# Altium schematic symbol library TNY.SchLib: 223 symbols (part 1 of 2)
Pins are listed as number, name and electrical type; pins without a type are passive.

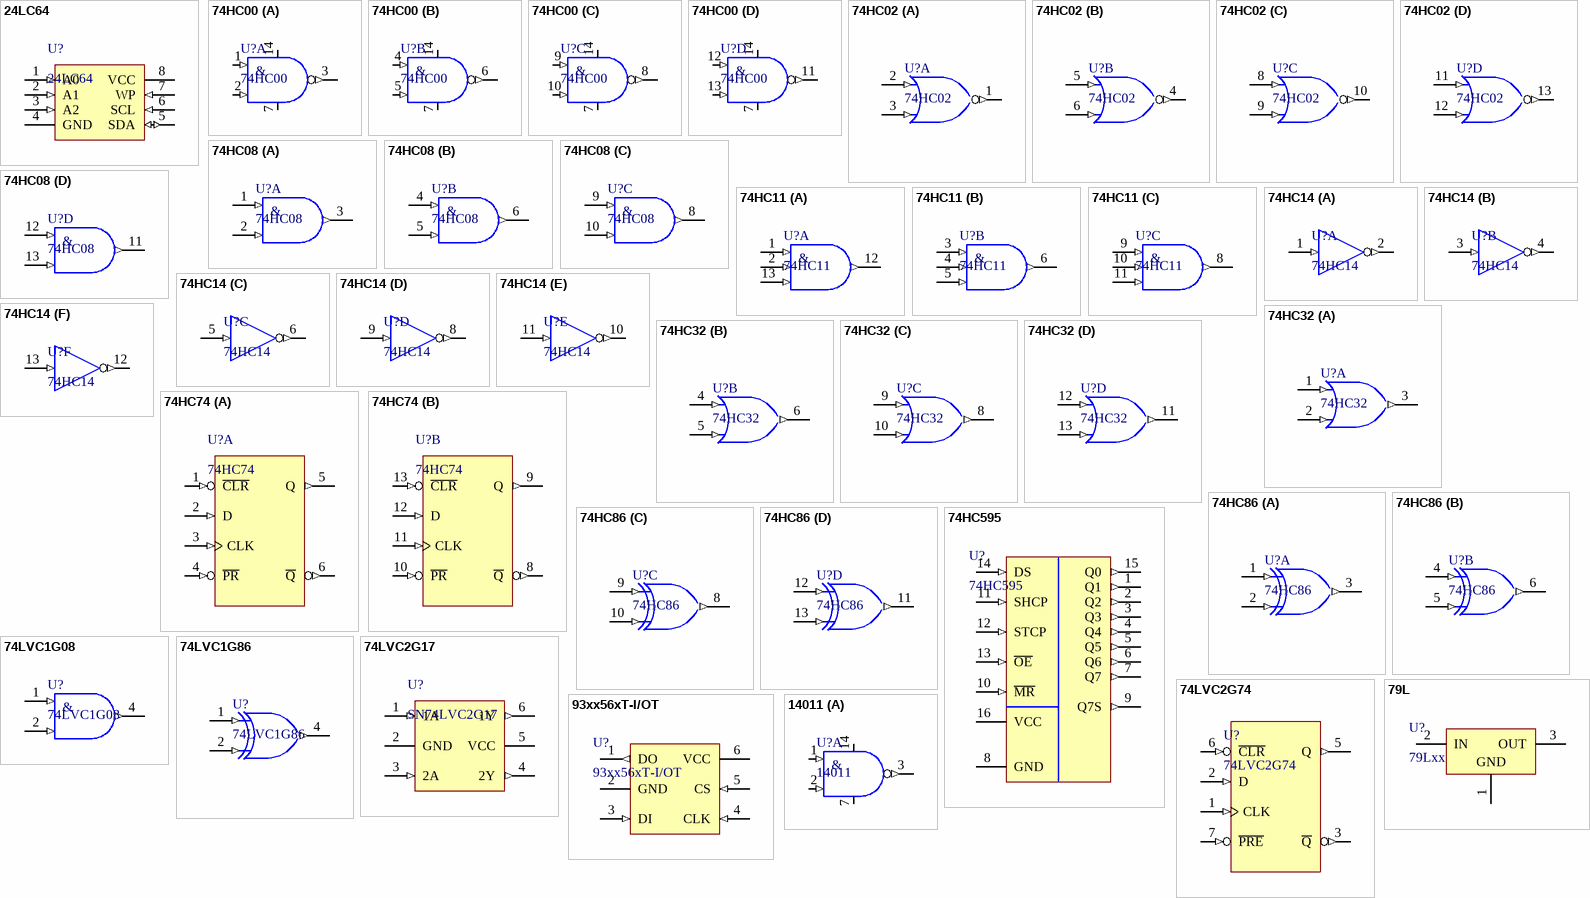
[diagram p0: symbols 24LC64 to 14011]

## 24LC64
designator U?
footprint SOIC127P600-8
pins: 1 A0 (in), 2 A1 (in), 3 A2 (in), 4 GND (power), 5 SDA (io), 6 SCL (in), 7 WP (in), 8 VCC (power)

## 74HC00
designator U?
footprint SOIC127P600-14
pins on every part: 7 GND (power), 14 +5V (power)
part A pins: 1 A (in), 2 B (in), 3 Y (out)
part B pins: 4 A (in), 5 B (in), 6 Y (out)
part C pins: 8 Y (out), 9 A (in), 10 B (in)
part D pins: 11 Y (out), 12 A (in), 13 B (in)
part A text: &
part B text: &
part C text: &
part D text: &

## 74HC02
designator U?
footprint SOIC127P600-14
pins on every part: 7 GND (power) hidden to GND, 14 VCC (power) hidden to Vcc
part A pins: 1 Y (out), 2 A (in), 3 B (in)
part B pins: 4 Y (out), 5 A (in), 6 B (in)
part C pins: 8 A (in), 9 B (in), 10 Y (out)
part D pins: 11 A (in), 12 B (in), 13 Y (out)

## 74HC08
designator U?
footprint SOIC127P600-14
pins on every part: 7 GND (power) hidden to GND, 14 VCC (power) hidden to Vcc
part A pins: 1 A (in), 2 B (in), 3 Y (out)
part B pins: 4 A (in), 5 B (in), 6 Y (out)
part C pins: 8 Y (out), 9 A (in), 10 B (in)
part D pins: 11 Y (out), 12 A (in), 13 B (in)
part A text: &
part B text: &
part C text: &
part D text: &

## 74HC11
designator U?
footprint SOIC127P600-14
pins on every part: 7 GND (power) hidden to GND, 14 VCC (power) hidden to Vcc
part A pins: 1 A (in), 2 B (in), 12 Y (out), 13 C (in)
part B pins: 3 A (in), 4 B (in), 5 C (in), 6 Y (out)
part C pins: 8 Y (out), 9 A (in), 10 B (in), 11 C (in)
part A text: &
part B text: &
part C text: &

## 74HC14
designator U?
footprint SOIC127P600-14
pins on every part: 7 GND (power) hidden to GND, 14 VCC (power) hidden to Vcc
part A pins: 1 A (in), 2 Y (out)
part B pins: 3 A (in), 4 Y (out)
part C pins: 5 A (in), 6 Y (out)
part D pins: 8 Y (out), 9 A (in)
part E pins: 10 Y (out), 11 A (in)
part F pins: 12 Y (out), 13 A (in)

## 74HC32
designator U?
footprint SOIC127P600-14
pins on every part: 7 GND (power) hidden to GND, 14 VCC (power) hidden to Vcc
part A pins: 1 A (in), 2 B (in), 3 Y (out)
part B pins: 4 A (in), 5 B (in), 6 Y (out)
part C pins: 8 Y (out), 9 A (in), 10 B (in)
part D pins: 11 Y (out), 12 A (in), 13 B (in)

## 74HC74
designator U?
footprint SOIC127P600-14
pins on every part: 7 GND (power) hidden to GND, 14 VCC (power) hidden to Vcc
part A pins: 1 ~{CLR} (in), 2 D (in), 3 CLK (in), 4 ~{PR} (in), 5 Q (out), 6 ~{Q} (out)
part B pins: 8 ~{Q} (out), 9 Q (out), 10 ~{PR} (in), 11 CLK (in), 12 D (in), 13 ~{CLR} (in)

## 74HC86
designator U?
footprint SOIC127P600-14
pins on every part: 7 GND (power) hidden to GND, 14 VCC (power) hidden to Vcc
part A pins: 1 A (in), 2 B (in), 3 Y (out)
part B pins: 4 A (in), 5 B (in), 6 Y (out)
part C pins: 8 Y (out), 9 A (in), 10 B (in)
part D pins: 11 Y (out), 12 A (in), 13 B (in)

## 74HC595
designator U?
8-bit serial-in, serial or parallel-out shift register with output; Manufacturer: *; Manufacturer Part Number: *; Package: *
footprint SOIC127P602-16_
footprint TSSOP16 (Shrink Small Outline, Plastic, Thin; 16 Leads; Body Width 4.4 mm; Pitch 0.65 mm)
pins: 1 Q1 (out), 2 Q2 (out), 3 Q3 (out), 4 Q4 (out), 5 Q5 (out), 6 Q6 (out), 7 Q7 (out), 8 GND (power), 9 Q7S (out), 10 ~{MR} (in), 11 SHCP (in), 12 STCP (in), 13 ~{OE} (in), 14 DS (in), 15 Q0 (out), 16 VCC (power)

## 74LVC1G08
designator U?
footprint SOT23-5_
pins: 1 A (in), 2 B (in), 3 GND (power) hidden to GND, 4 Y (out), 5 VCC (power) hidden to Vcc
text: &

## 74LVC1G86
designator U?
footprint SOT23-5_
pins: 1 A (in), 2 B (in), 3 GND (power) hidden to GND, 4 Y (out), 5 Vcc (power) hidden to Vcc

## 74LVC2G17
designator U?, comment SN74LVC2G17
footprint SOT23-6_
pins: 1 1A (in), 2 GND (power), 3 2A (in), 4 2Y (out), 5 VCC (power), 6 1Y (out)

## 74LVC2G74
designator U?
SINGLEPOSITIVE-EDGE-TRIGGEREDD-TYPEFLIP-FLOP
footprint SOIC127P600-8
pins: 1 CLK (in), 2 D (in), 3 ~{Q} (out), 4 GND (power) hidden to GND, 5 Q (out), 6 ~{CLR} (in), 7 ~{PRE} (in), 8 VCC (power) hidden to Vcc

## 79L
designator U?, comment 79Lxx
footprint TO-92_1
footprint TO-92_2
pins: 1 GND (power), 2 IN (power), 3 OUT (power)

## 93xx56xT-I/OT
designator U?
2K Microwire Compatible Serial EEPROM
footprint SOT23-6_
pins: 1 DO (out), 2 GND (power), 3 DI (in), 4 CLK (in), 5 CS (in), 6 VCC (power)

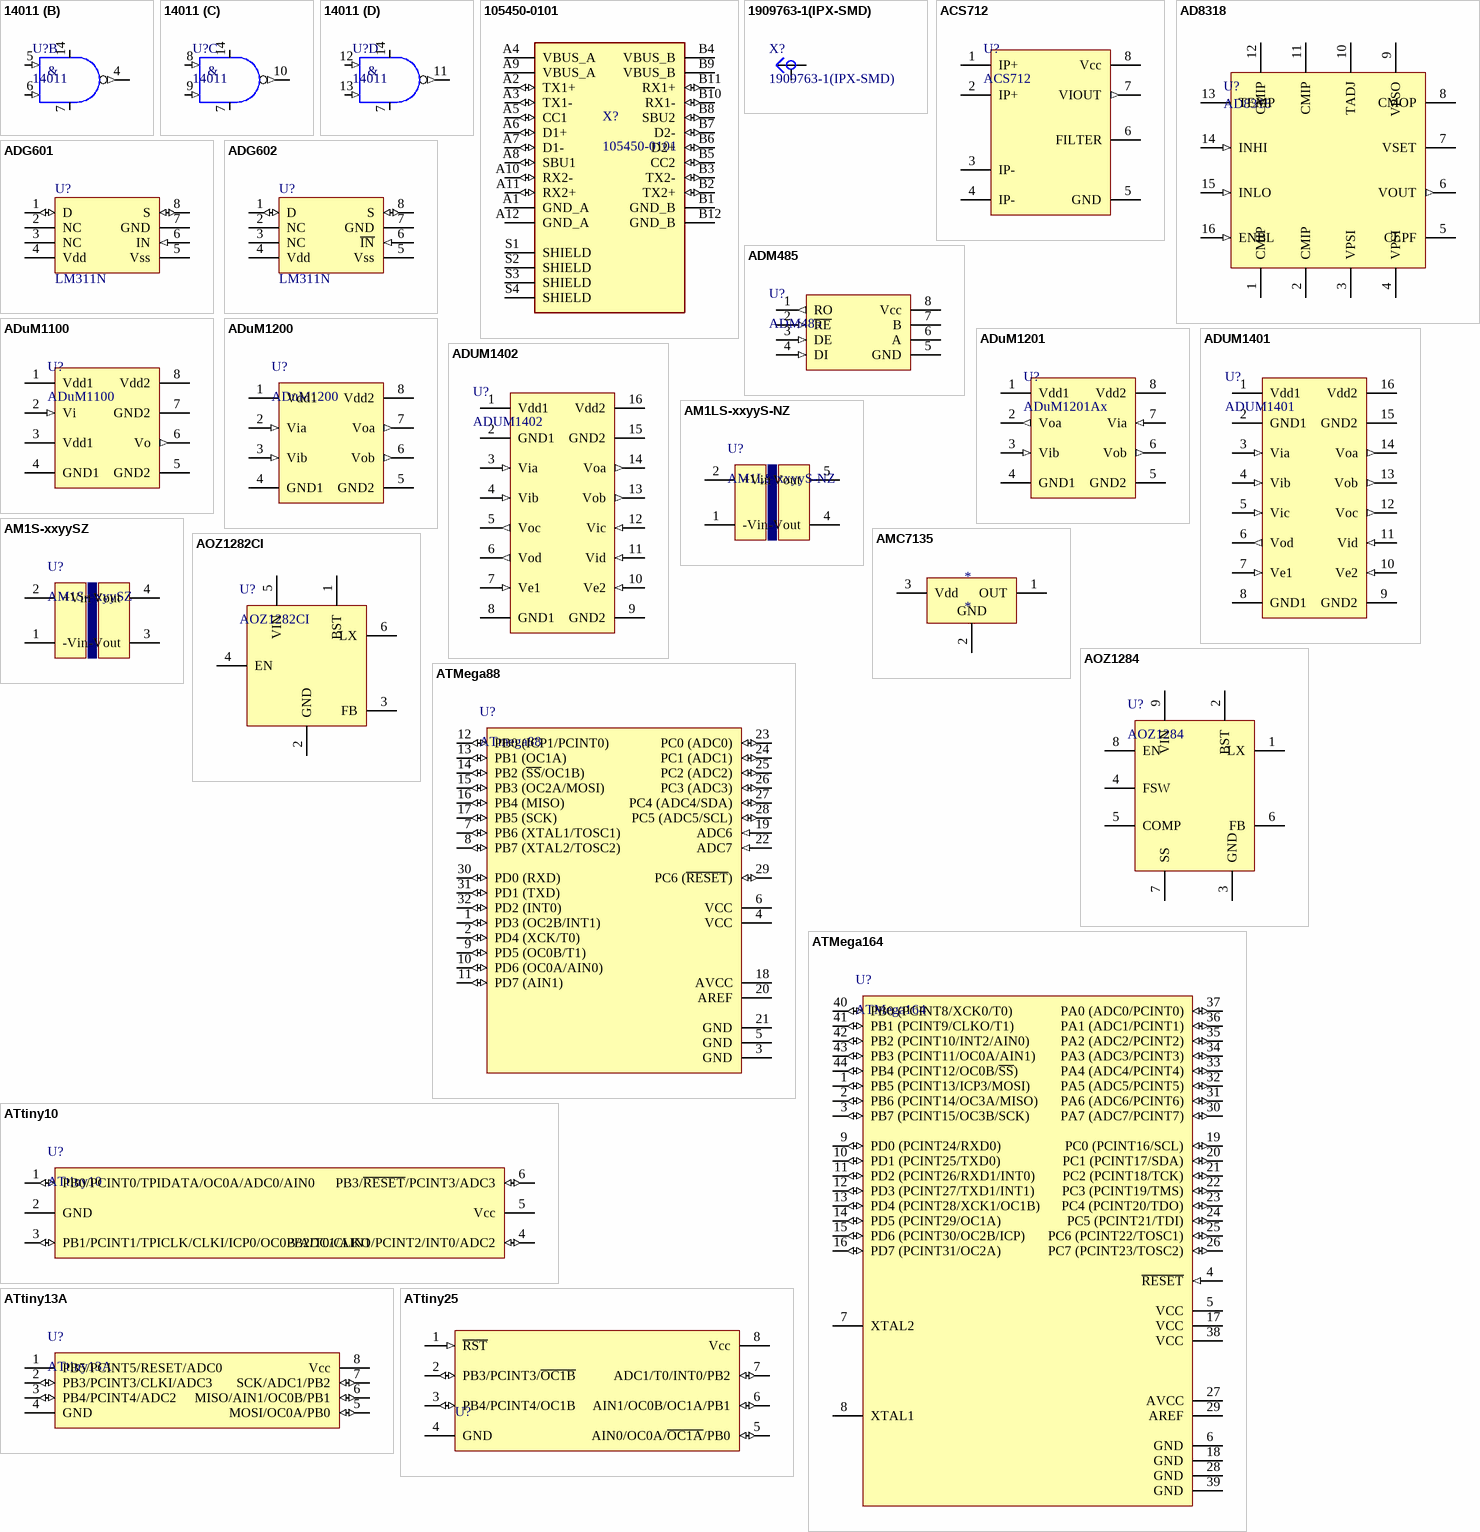
[diagram p1: symbols 14011 to ATtiny25]

## 14011
designator U?
footprint SOIC127P600-14
pins on every part: 7 GND (power), 14 +5V (power)
part A pins: 1 A (in), 2 B (in), 3 Y (out)
part B pins: 4 Y (out), 5 A (in), 6 B (in)
part C pins: 8 A (in), 9 B (in), 10 Y (out)
part D pins: 11 Y (out), 12 A (in), 13 B (in)
part A text: &
part B text: &
part C text: &
part D text: &

## 105450-0101
designator X?
USB-C (USB TYPE-C) USB 3.2 Gen 2 (USB 3.1 Gen 2, Superspeed + (USB 3.1)) Receptacle Connector 24 Position Surface Mount, Right Angle; Through Hole
footprint MOLEX_105450-0101
pins: A1 GND_A (power), A2 TX1+ (io), A3 TX1- (io), A4 VBUS_A (power), A5 CC1 (io), A6 D1+ (io), A7 D1- (io), A8 SBU1 (io), A9 VBUS_A (power), A10 RX2- (io), A11 RX2+ (io), A12 GND_A (power), B1 GND_B (power), B2 TX2+ (io), B3 TX2- (io), B4 VBUS_B (power), B5 CC2 (io), B6 D2+ (io), B7 D2- (io), B8 SBU2 (io), B9 VBUS_B (power), B10 RX1- (io), B11 RX1+ (io), B12 GND_B (power), S1 SHIELD, S2 SHIELD, S3 SHIELD, S4 SHIELD

## 1909763-1(IPX-SMD)
designator X?
footprint CONN3_1909763_TEC
pins: 1, 2, 3 (power)

## ACS712
designator U?
footprint SOIC127P600-8
pins: 1 IP+, 2 IP+, 3 IP-, 4 IP-, 5 GND (power), 6 FILTER, 7 VIOUT (out), 8 Vcc (power)

## AD8318
designator U?
1 MHz to 8 GHz, 70 dB  Logarithmic Detector
footprint LFCSP CP-16-23
footprint LFCSP CP-16-23-M
footprint LFCSP CP-16-23-L
pins: 1 CMIP (power), 2 CMIP (power), 3 VPSI (power), 4 VPSI (power), 5 CLPF, 6 VOUT (out), 7 VSET, 8 CMOP (power), 9 VPSO (power), 10 TADJ, 11 CMIP (power), 12 CMIP (power), 13 TEMP (oe), 14 INHI (in), 15 INLO (in), 16 ENBL (in), 17 EXP (power) hidden to GND

## ADG601
designator U?, comment LM311N
Published: 24-Aug-2001; LatestRevisionDate: 06-Jun-2005; LatestRevisionNote: Stylized 3D Model Added.; DatasheetVersion: Oct-1997; PackageReference: DIP8; Publisher: Altium Limited; PackageDescription: DIP; 8 Leads; Row Spacing 7.62 mm; Pitch 2.54 mm; Code_JEDEC: MO-001-AN; ComponentLink1Description: Manufacturer Link; ComponentLink1URL: http://www.st.com/; ComponentLink2Description: Datasheet; ComponentLink2URL: http://www.st.com/stonline/products/literature/ds/4848/lm211.pdf
footprint TSSO3x5-G8/X.4 (Footprint not found)
pins: 1 D (io), 2 NC, 3 NC, 4 Vdd (power), 5 Vss (power), 6 IN (in), 7 GND (power), 8 S (io)

## ADG602
designator U?, comment LM311N
Published: 24-Aug-2001; LatestRevisionDate: 06-Jun-2005; LatestRevisionNote: Stylized 3D Model Added.; DatasheetVersion: Oct-1997; PackageReference: DIP8; Publisher: Altium Limited; PackageDescription: DIP; 8 Leads; Row Spacing 7.62 mm; Pitch 2.54 mm; Code_JEDEC: MO-001-AN; ComponentLink1Description: Manufacturer Link; ComponentLink1URL: http://www.st.com/; ComponentLink2Description: Datasheet; ComponentLink2URL: http://www.st.com/stonline/products/literature/ds/4848/lm211.pdf
footprint TSSO3x5-G8/X.4 (Shrink Small Outline; 8 Leads; Body Width 3 mm; Pitch 0.65 mm)
pins: 1 D (io), 2 NC, 3 NC, 4 Vdd (power), 5 Vss (power), 6 ~{IN} (in), 7 GND (power), 8 S (io)

## ADM485
designator U?
footprint DIP-8 (DIP; 8 Leads; Row Spacing 7.62 mm; Pitch 2.54 mm)
footprint SOIC127P600-8
pins: 1 RO (out), 2 ~{RE} (in), 3 DE (in), 4 DI (in), 5 GND (power), 6 A, 7 B, 8 Vcc (power)

## ADuM1100
designator U?
footprint SOIC127P600-8
pins: 1 Vdd1 (power), 2 Vi (in), 3 Vdd1 (power), 4 GND1 (power), 5 GND2 (power), 6 Vo (out), 7 GND2 (power), 8 Vdd2 (power)

## ADuM1200
designator U?
Dual-Channel Digital Isolators 2/0
footprint SOIC127P600-8
pins: 1 Vdd1 (power), 2 Via (in), 3 Vib (in), 4 GND1 (power), 5 GND2 (power), 6 Vob (out), 7 Voa (out), 8 Vdd2 (power)

## ADuM1201
designator U?, comment ADuM1201Ax
Dual-Channel Digital Isolator 1/1
footprint SOIC127P600-8
pins: 1 Vdd1 (power), 2 Voa (out), 3 Vib (in), 4 GND1 (power), 5 GND2 (power), 6 Vob (out), 7 Via (in), 8 Vdd2 (power)

## ADUM1401
designator U?
footprint SOIC127P1030-16
pins: 1 Vdd1 (power), 2 GND1 (power), 3 Via (in), 4 Vib (in), 5 Vic (in), 6 Vod (out), 7 Ve1 (in), 8 GND1 (power), 9 GND2 (power), 10 Ve2 (in), 11 Vid (in), 12 Voc (out), 13 Vob (out), 14 Voa (out), 15 GND2 (power), 16 Vdd2 (power)

## ADUM1402
designator U?
footprint SOIC127P1030-16
pins: 1 Vdd1 (power), 2 GND1 (power), 3 Via (in), 4 Vib (in), 5 Voc (out), 6 Vod (out), 7 Ve1 (in), 8 GND1 (power), 9 GND2 (power), 10 Ve2 (in), 11 Vid (in), 12 Vic (in), 13 Vob (out), 14 Voa (out), 15 GND2 (power), 16 Vdd2 (power)

## AM1LS-xxyyS-NZ
designator U?
footprint AM1LS-NZ
pins: 1 -Vin (power), 2 +Vin (power), 4 -Vout (power), 5 +Vout (power), 8 NC (power) hidden

## AM1S-xxyySZ
designator U?
footprint AM1S-SZ
pins: 1 -Vin (power), 2 +Vin (power), 3 -Vout (power), 4 +Vout (power)

## AMC7135
designator *
footprint SOT89L_ (SOT89, 3-Leads, Body 4.5x2.4 mm, Pitch 1.5mm, Lead Span 4.1mm, IPC High Density)
pins: 1 OUT (power), 2 GND (power), 3 Vdd (power)

## AOZ1282CI
designator U?
EZBuck™ 1.2A Simple Buck Regulator. 4.5V to 36V operating input voltage; Manufacturer: ALPHA&OMEGA Semiconductor; Package: SOT23-6
footprint SOT23-6_
pins: 1 BST, 2 GND (power), 3 FB, 4 EN, 5 VIN (power), 6 LX

## AOZ1284
designator U?
EZBuck™ 4A Simple Buck Regulator; Manufacturer: ALPHA&OMEGA Semiconductor; Package: SO-8
footprint SOIC127P600-8-EPAD
pins: 1 LX, 2 BST, 3 GND (power), 4 FSW, 5 COMP, 6 FB, 7 SS, 8 EN, 9 VIN (power)

## ATMega88
designator U?, comment ATmega88
footprint 32A_N_ (TQFP 32 Body 7x7)
pins: 1 PD3 (OC2B/INT1) (io), 2 PD4 (XCK/T0) (io), 3 GND (power), 4 VCC (power), 5 GND (power), 6 VCC (power), 7 PB6 (XTAL1/TOSC1) (io), 8 PB7 (XTAL2/TOSC2) (io), 9 PD5 (OC0B/T1) (io), 10 PD6 (OC0A/AIN0) (io), 11 PD7 (AIN1) (io), 12 PB0 (ICP1/PCINT0) (io), 13 PB1 (OC1A) (io), 14 PB2 (~{SS}/OC1B) (io), 15 PB3 (OC2A/MOSI) (io), 16 PB4 (MISO) (io), 17 PB5 (SCK) (io), 18 AVCC (power), 19 ADC6 (in), 20 AREF, 21 GND (power), 22 ADC7 (in), 23 PC0 (ADC0) (io), 24 PC1 (ADC1) (io), 25 PC2 (ADC2) (io), 26 PC3 (ADC3) (io), 27 PC4 (ADC4/SDA) (io), 28 PC5 (ADC5/SCL) (io), 29 PC6 (~{RESET}) (io), 30 PD0 (RXD) (io), 31 PD1 (TXD) (io), 32 PD2 (INT0) (io)

## ATMega164
designator U?
footprint TQFP80P1200X1200-44AN (Thin QFP, 44-Leads, Body 10x10mm, Pitch 0.8mm, IPC Medium Density)
pins: 1 PB5 (PCINT13/ICP3/MOSI) (io), 2 PB6 (PCINT14/OC3A/MISO) (io), 3 PB7 (PCINT15/OC3B/SCK) (io), 4 ~{RESET} (in), 5 VCC (power), 6 GND (power), 7 XTAL2, 8 XTAL1, 9 PD0 (PCINT24/RXD0) (io), 10 PD1 (PCINT25/TXD0) (io), 11 PD2 (PCINT26/RXD1/INT0) (io), 12 PD3 (PCINT27/TXD1/INT1) (io), 13 PD4 (PCINT28/XCK1/OC1B) (io), 14 PD5 (PCINT29/OC1A) (io), 15 PD6 (PCINT30/OC2B/ICP) (io), 16 PD7 (PCINT31/OC2A) (io), 17 VCC (power), 18 GND (power), 19 PC0 (PCINT16/SCL) (io), 20 PC1 (PCINT17/SDA) (io), 21 PC2 (PCINT18/TCK) (io), 22 PC3 (PCINT19/TMS) (io), 23 PC4 (PCINT20/TDO) (io), 24 PC5 (PCINT21/TDI) (io), 25 PC6 (PCINT22/TOSC1) (io), 26 PC7 (PCINT23/TOSC2) (io), 27 AVCC (power), 28 GND (power), 29 AREF, 30 PA7 (ADC7/PCINT7) (io), 31 PA6 (ADC6/PCINT6) (io), 32 PA5 (ADC5/PCINT5) (io), 33 PA4 (ADC4/PCINT4) (io), 34 PA3 (ADC3/PCINT3) (io), 35 PA2 (ADC2/PCINT2) (io), 36 PA1 (ADC1/PCINT1) (io), 37 PA0 (ADC0/PCINT0) (io), 38 VCC (power), 39 GND (power), 40 PB0 (PCINT8/XCK0/T0) (io), 41 PB1 (PCINT9/CLKO/T1) (io), 42 PB2 (PCINT10/INT2/AIN0) (io), 43 PB3 (PCINT11/OC0A/AIN1) (io), 44 PB4 (PCINT12/OC0B/~{SS}) (io)

## ATtiny10
designator U?
ATtiny4/5/9/10 is a low power, CMOS 8-bit microcontrollers SOT-23-6; Manufacturer: Microchip; Manufacturer Part Number: ATTINY10-TSHR; Package: SOT-23-6
footprint SO-8_Wide
footprint SOIC127P600-8
footprint SOT23-6_
pins: 1 PB0/PCINT0/TPIDATA/OC0A/ADC0/AIN0 (io), 2 GND (power), 3 PB1/PCINT1/TPICLK/CLKI/ICP0/OC0B/ADC1/AIN1 (io), 4 PB2/T0/CLKO/PCINT2/INT0/ADC2 (io), 5 Vcc (power), 6 PB3/~{RESET}/PCINT3/ADC3 (io)

## ATtiny13A
designator U?
footprint SO-8_Wide
footprint SOIC127P600-8
pins: 1 PB5/PCINT5/RESET/ADC0 (power), 2 PB3/PCINT3/CLKI/ADC3 (io), 3 PB4/PCINT4/ADC2 (io), 4 GND (power), 5 MOSI/OC0A/PB0 (io), 6 MISO/AIN1/OC0B/PB1 (io), 7 SCK/ADC1/PB2 (io), 8 Vcc (power)

## ATtiny25
designator U?  (value not drawn)
footprint DIP-8 (DIP; 8 Leads; Row Spacing 7.62 mm; Pitch 2.54 mm)
footprint SO-8_Wide
pins: 1 ~{RST} (in), 2 PB3/PCINT3/~{OC1B} (io), 3 PB4/PCINT4/OC1B (io), 4 GND (power), 5 AIN0/OC0A/~{OC1A}/PB0 (io), 6 AIN1/OC0B/OC1A/PB1 (io), 7 ADC1/T0/INT0/PB2 (io), 8 Vcc (power)

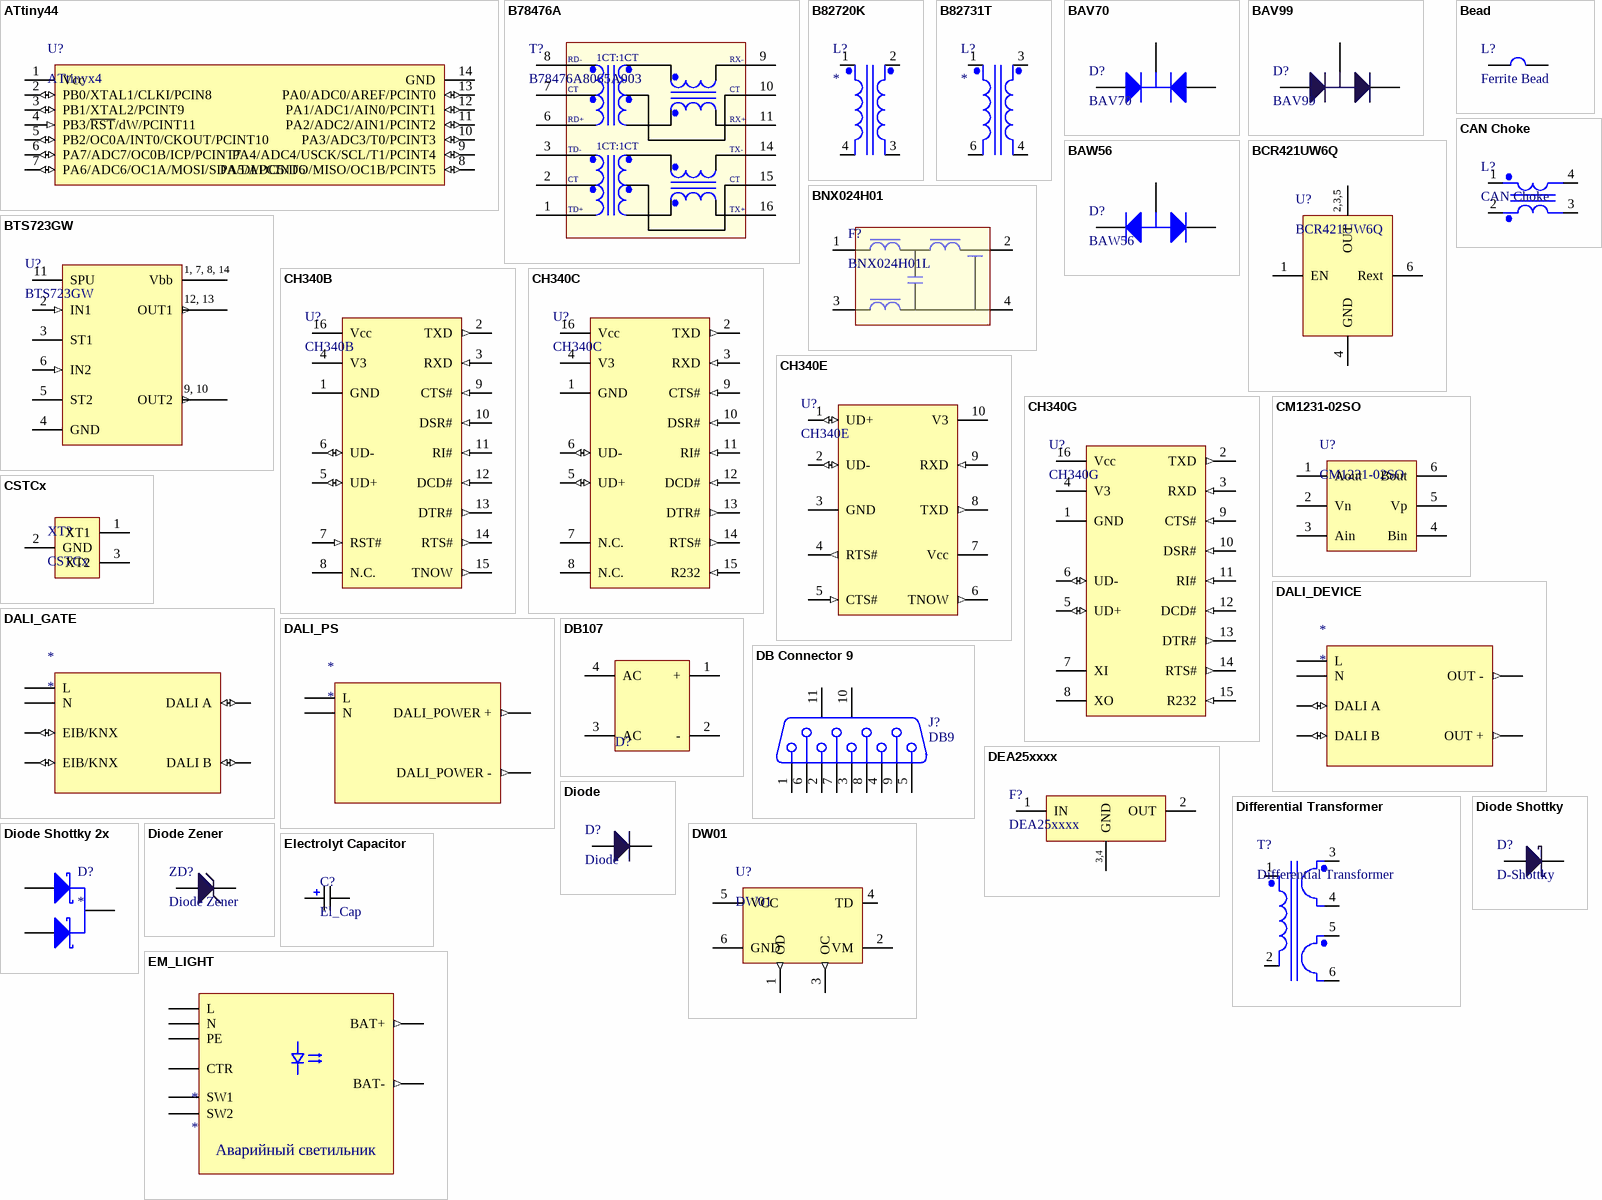
[diagram p2: symbols ATtiny44 to EM_LIGHT]

## ATtiny44
designator U?, comment ATtinyx4
8-bit Microcontroller with 2K/4K/8K Bytes In-System Programmable Flash; Manufacturer: Microchip
footprint 20M1_M_ (QFN, 20-Leads, Body 4x4mm, Pitch 0.5mm); pin to pad 1>9 2>11 3>12 4>13 5>14 6>15 7>16 8>20 9>1 10>2 11>3 12>4 13>5 14>8+21
footprint SOIC127P600-14
pins: 1 Vcc (power), 2 PB0/XTAL1/CLKI/PCIN8 (io), 3 PB1/XTAL2/PCINT9 (io), 4 PB3/~{RST}/dW/PCINT11 (in), 5 PB2/OC0A/INT0/CKOUT/PCINT10 (io), 6 PA7/ADC7/OC0B/ICP/PCINT7 (io), 7 PA6/ADC6/OC1A/MOSI/SDA/DI/PCINT6 (io), 8 PA5/ADC5/DO/MISO/OC1B/PCINT5 (io), 9 PA4/ADC4/USCK/SCL/T1/PCINT4 (io), 10 PA3/ADC3/T0/PCINT3 (io), 11 PA2/ADC2/AIN1/PCINT2 (io), 12 PA1/ADC1/AIN0/PCINT1 (io), 13 PA0/ADC0/AREF/PCINT0 (io), 14 GND (power)

## B78476A
designator T?, comment B78476A8065A003
10/100 Base-T magnetics module
footprint B78476 (10/100 Base-T magnetics module)
pins: 1 TD+, 2 CT, 3 TD-, 6 RD+, 7 CT, 8 RD-, 9 RX-, 10 CT, 11 RX+, 14 TX-, 15 CT, 16 TX+
text: 1CT:1CT

## B82720K
designator L?
footprint B82720K
pins: 1 Pri+, 2 Sec1+, 3 Sec1-, 4 Pri-

## B82731T
designator L?
footprint B82731T (AL line filter inductor)
pins: 1 Pri+, 3 Sec1+, 4 Sec1-, 6 Pri-

## BAV70
designator D?
footprint SOT23_
pins: 1 A1, 2 A2, 3 K

## BAV99
designator D?
Power/Voltage: 70V, 0.15A; Manufacturer: *; ManufacturerPartNumber: *; Package: SOT-23
footprint SOT23_
pins: 1 A, 2 K, 3 C

## BAW56
designator D?
footprint SOT23_
pins: 1 K1, 2 K2, 3 A

## BCR421UW6Q
designator U?
Linear LED Constant Current Regulator in SOT26; Manufacturer: DIODES Inc.; Package: SOT23-6
footprint SOT23-6_
pins: 1 EN, 2 OUT, 3 OUT, 4 GND (power), 5 OUT, 6 Rext
text: 2,3,5

## Bead
designator L?, comment Ferrite Bead
footprint LC1608_N
footprint LC2012_N
footprint LC3216_N
footprint LC2012-1_N
pins: 1, 2

## BNX024H01
designator F?, comment BNX024H01L
SMD Block Type EMIFIL
footprint BNX024H01
pins: 1 B (power), 2 CB (power), 3 PSG (power), 4 CG (power)

## BTS723GW
designator U?
Smart High-Sight Power Switch
footprint SOIC127P600-PG-DSO-14-24
pins: 1 Vbb (power), 2 IN1 (in), 3 ST1 (oc), 4 GND (power), 5 ST2 (oc), 6 IN2 (in), 7 Vbb (power), 8 Vbb (power), 9 OUT2 (out), 10 OUT2, 11 SPU (power), 12 OUT1 (out), 13 OUT1, 14 Vbb (power)
text: 1, 7, 8, 14; 12, 13; 9, 10

## CAN Choke
designator L?
Common-mode choke
footprint LC1812_DUAL
pins: 1, 2, 3, 4

## CH340B
designator U?
USB to UART interface; Package: SO-16
footprint SOIC127P602-16_
pins: 1 GND (power), 2 TXD (out), 3 RXD (in), 4 V3 (power), 5 UD+ (io), 6 UD- (io), 7 RST# (in), 8 N.C., 9 CTS# (in), 10 DSR# (in), 11 RI# (in), 12 DCD# (in), 13 DTR# (out), 14 RTS# (out), 15 TNOW (out), 16 Vcc (power)

## CH340C
designator U?
USB to UART interface; Package: SO-16
footprint SOIC127P602-16_
pins: 1 GND (power), 2 TXD (out), 3 RXD (in), 4 V3 (power), 5 UD+ (io), 6 UD- (io), 7 N.C., 8 N.C., 9 CTS# (in), 10 DSR# (in), 11 RI# (in), 12 DCD# (in), 13 DTR# (out), 14 RTS# (out), 15 R232 (in), 16 Vcc (power)

## CH340E
designator U?
USB to UART interface; Package: MSOP-10
footprint MSOP10-0.5
pins: 1 UD+ (io), 2 UD- (io), 3 GND (power), 4 RTS# (out), 5 CTS# (in), 6 TNOW (out), 7 Vcc (power), 8 TXD (out), 9 RXD (in), 10 V3 (power)

## CH340G
designator U?
USB to UART interface; Package: SO-16
footprint SOIC127P602-16_
pins: 1 GND (power), 2 TXD (out), 3 RXD (in), 4 V3 (power), 5 UD+ (io), 6 UD- (io), 7 XI, 8 XO, 9 CTS# (in), 10 DSR# (in), 11 RI# (in), 12 DCD# (in), 13 DTR# (out), 14 RTS# (out), 15 R232 (in), 16 Vcc (power)

## CM1231-02SO
designator U?
2-Channel / Low-Capacitance ESD / Protection Array
footprint SOT23-6_
pins: 1 Aout, 2 Vn (power), 3 Ain, 4 Bin, 5 Vp (power), 6 Bout

## CSTCx
designator XT?
footprint CSTCR_G_B
footprint CSTCE_G
pins: 1 XT1, 2 GND (power), 3 XT2

## DALI_DEVICE
designator *
pins: 1 L (power), 2 N (power), 3 DALI A (io), 4 DALI B (io), 5 OUT - (out), 6 OUT + (out)

## DALI_GATE
designator *
pins: 1 L (power), 2 N (power), 3 EIB/KNX (io), 4 EIB/KNX (io), 5 DALI B (io), 6 DALI A (io)

## DALI_PS
designator *
pins: 1 L (power), 2 N (power), 5 DALI_POWER - (out), 6 DALI_POWER + (out)

## DB107
designator D?  (value not drawn)
Diode bridge; Published: 8-Jun-2000; LatestRevisionDate: 17-Jul-2002; LatestRevisionNote: Re-released for DXP Platform.; DatasheetDocument: Dec-1997; PackageReference: DO-204AL; Publisher: Altium Limited; Code_JEDEC: DO-204-AL; ComponentLink1Description: Manufacturer Link; ComponentLink1URL: http://www.irf.com/; ComponentLink2Description: Datasheet; ComponentLink2URL: http://www.irf.com/product-info/datasheets/data/11dq03.pdf
footprint DIODE_BRIDGE_DFS
pins: 1 + (power), 2 - (power), 3 AC (power), 4 AC (power)

## DB Connector 9
designator J?, comment DB9
Receptacle Assembly, 9 Position; PackageDocument: O; Positions: 9; Published: 15-Jun-2001; LatestRevisionDate: 17-Jul-2002; LatestRevisionNote: Re-released for DXP Platform.; DatasheetDocument: 1-Sep-1999; PackageReference: 788750; Publisher: Altium Limited; Orientation: Right Angle; Gender: Receptacle
signal-integrity model Connector
footprint DSUB1.385-2H9-F (Connector; D Subminiature; 9 Position; Right Angle; Pitch 1.385 mm)
pins: 1, 2, 3, 4, 5, 6, 7, 8, 9, 10 MH1, 11 MH2

## DEA25xxxx
designator F?
Multilayer Band Pass Filter
footprint DEA25xxxx (Multilayer Band Pass Filter)
pins: 1 IN, 2 OUT, 3 GND (power), 4 GND (power)
text: 3,4

## Differential Transformer
designator T?
pins: 1 Pri+, 2 Pri-, 3 Sec1+, 4 Sec1-, 5 Sec1-, 6 Sec1-

## Diode
designator D?
Abstract Diode; Manufacturer: *; Manufacturer Part Number: *; Package: *; Power/Voltage: *
footprint SMA_DO214 (DO-214-AC/SMA; 2 C-Bend Leads; Body 5.3 x 2.6 mm)
footprint SMB_DO214 (DO-214-AA/SMB; 2 C-Bend Leads; Body 5.3 x 3.6 mm)
footprint SMC_DO214 (DO-214-AB/SMC; 2 C-Bend Leads; Body 7.9 x 5.9 mm)
footprint SOD-80_MELF (MiniMELF Diode; Body 3.5 x 1.6 mm)
footprint SOD-123
footprint SOD-323
pins: 1 A, 2 K

## Diode Shottky
designator D?, comment D-Shottky
Manufacturer: *; Manufacturer Part Number: *; Package: *; Power/Voltage: *
footprint SMA_DO214 (DO-214-AC/SMA; 2 C-Bend Leads; Body 5.3 x 2.6 mm)
footprint SMB_DO214 (DO-214-AA/SMB; 2 C-Bend Leads; Body 5.3 x 3.6 mm)
footprint SMC_DO214 (DO-214-AB/SMC; 2 C-Bend Leads; Body 7.9 x 5.9 mm)
footprint SOD-123
footprint SOD-323
footprint SOD-80_MELF (MiniMELF Diode; Body 3.5 x 1.6 mm)
pins: 1 A, 2 K

## Diode Shottky 2x
designator D?
footprint D2PAK_L_
pins: 1 A1, 2 K, 3 A2

## Diode Zener
designator ZD?
Manufacturer: *; Manufacturer Part Number: *; Package: *; Power/Voltage: *
footprint SMA_DO214 (DO-214-AC/SMA; 2 C-Bend Leads; Body 5.3 x 2.6 mm)
footprint SMB_DO214 (DO-214-AA/SMB; 2 C-Bend Leads; Body 5.3 x 3.6 mm)
footprint SMC_DO214 (DO-214-AB/SMC; 2 C-Bend Leads; Body 7.9 x 5.9 mm)
footprint SOD-80_MELF (MiniMELF Diode; Body 3.5 x 1.6 mm)
footprint SOD-123
footprint SOD-323
pins: 1 A, 2 K

## DW01
designator U?
DW01 battery protection IC; Manufacturer: SHENZHEN HOTTECH ELECTRONICS CO.,LTD; Package: SOT23-6
footprint SOT23-6_
pins: 1 OD (out), 2 VM, 3 OC (out), 4 TD, 5 VCC (power), 6 GND (power)

## Electrolyt Capacitor
designator C?, comment El_Cap
Capacitor Electrolyt xxx yyy xxV ???; Manufacturer: *; ManufacturerPartNumber: *; Package: *; Value: *; Power/Voltage: *; Tolerance: *; TKE: *
footprint EL_CAP_13x25-5
pins: 1, 2

## EM_LIGHT
designator *
pins: 1 L (power), 2 N (power), 3 SW1, 4 SW2, 5 BAT+ (out), 6 BAT- (out), 7 PE, 8 CTR
text: Аварийный светильник

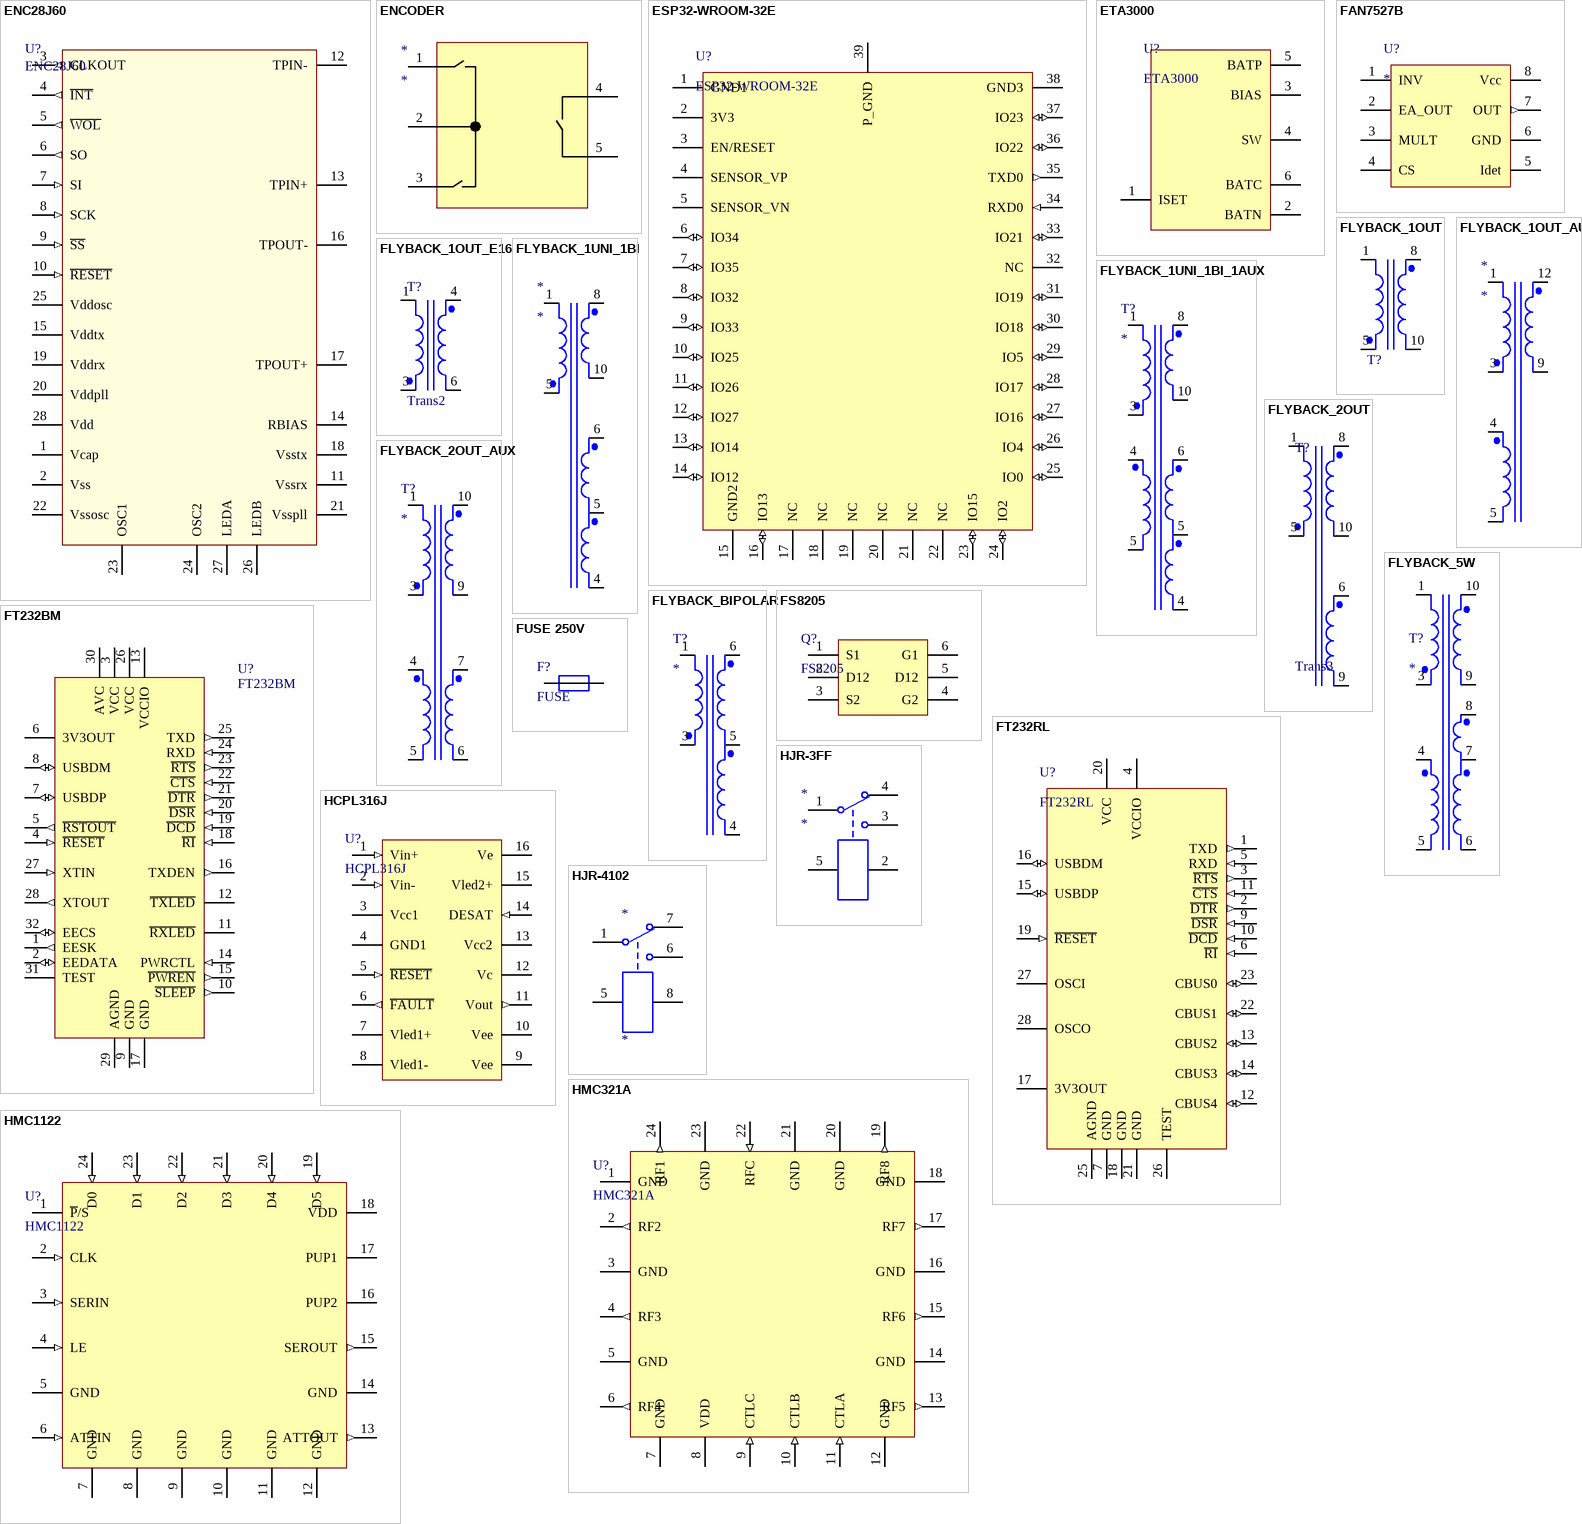
[diagram p3: symbols ENC28J60 to HMC1122]

## ENC28J60
designator U?
10M Ethernet Controller with SPI
footprint SSOP-28 (SSOP, Plastic; 28 Leads; Body Width 5.2 mm; Pitch 0.65 mm)
footprint SOIC127P1030-28 (SOIC, 28-Leads, Body 17.9x7.5mm, Pitch 1.27mm, IPC Medium Density)
pins: 1 Vcap, 2 Vss (power), 3 CLKOUT (out), 4 ~{INT} (out), 5 ~{WOL} (out), 6 SO (out), 7 SI (in), 8 SCK (in), 9 ~{SS} (in), 10 ~{RESET} (in), 11 Vssrx (power), 12 TPIN-, 13 TPIN+, 14 RBIAS, 15 Vddtx (power), 16 TPOUT-, 17 TPOUT+, 18 Vsstx (power), 19 Vddrx (power), 20 Vddpll (power), 21 Vsspll (power), 22 Vssosc (power), 23 OSC1, 24 OSC2, 25 Vddosc (power), 26 LEDB, 27 LEDA, 28 Vdd (power)

## ENCODER
designator *
pins: 1 (power), 2, 3, 4 (power), 5 (power)

## ESP32-WROOM-32E
designator U?
ESP32-WROOM-32E Wi-Fi Module with integrated Antenna
footprint ESP32-WROOM-32E (ESP32-WROOM-32E Wi-Fi Module with integrated Antenna)
pins: 1 GND1 (power), 2 3V3 (power), 3 EN/RESET, 4 SENSOR_VP, 5 SENSOR_VN, 6 IO34 (io), 7 IO35 (io), 8 IO32 (io), 9 IO33 (io), 10 IO25 (io), 11 IO26 (io), 12 IO27 (io), 13 IO14 (io), 14 IO12 (io), 15 GND2 (power), 16 IO13 (io), 17 NC, 18 NC, 19 NC, 20 NC, 21 NC, 22 NC, 23 IO15 (io), 24 IO2 (io), 25 IO0 (io), 26 IO4 (io), 27 IO16 (io), 28 IO17 (io), 29 IO5 (io), 30 IO18 (io), 31 IO19 (io), 32 NC, 33 IO21 (io), 34 RXD0 (in), 35 TXD0 (out), 36 IO22 (io), 37 IO23 (io), 38 GND3 (power), 39 P_GND (power)

## ETA3000
designator U?
Inductive Cell Balancer IC with Balancing Current up to 2A; Package: SOT-23-6
footprint SOT23-6_
pins: 1 ISET, 2 BATN (power), 3 BIAS, 4 SW, 5 BATP (power), 6 BATC

## FAN7527B
designator U?
footprint SOIC127P600-8
pins: 1 INV, 2 EA_OUT, 3 MULT, 4 CS, 5 Idet, 6 GND (power), 7 OUT (out), 8 Vcc (power)

## FLYBACK_1OUT
designator T?  (value not drawn)
LatestRevisionDate: 17-Jul-2002; LatestRevisionNote: Re-released for DXP Platform.; Publisher: Altium Limited
footprint EE20_HOR
pins: 1 Pri+, 5 Pri-, 8 Sec1+, 10 Sec1-

## FLYBACK_1OUT_AUX
designator *
footprint ETD29-13_HOR
footprint EE20-10_HOR; pin to pad 9>8 12>10
pins: 1 Pri+, 3 Pri-, 4 Bias-, 5 Bias+, 9 Sec1-, 12 Sec1+

## FLYBACK_1OUT_E16
designator T?, comment Trans2
Published: 24-Aug-2001; LatestRevisionDate: 06-Jun-2005; LatestRevisionNote: Stylized 3D Model Added.; DatasheetVersion: Oct-1997; PackageReference: DIP8; Publisher: Altium Limited; PackageDescription: DIP; 8 Leads; Row Spacing 7.62 mm; Pitch 2.54 mm; Code_JEDEC: MO-001-AN; ComponentLink1Description: Manufacturer Link; ComponentLink1URL: http://www.st.com/; ComponentLink2Description: Datasheet; ComponentLink2URL: http://www.st.com/stonline/products/literature/ds/4848/lm211.pdf
footprint EE16Vert6Pin
pins: 1 Pri+, 3 Pri-, 4 Sec1+, 6 Sec1-

## FLYBACK_1UNI_1BI
designator *
pins: 1 Pri+, 4 Sec2-, 5 Pri-, 5 Sec2+, 6 Sec1+, 8 Sec1+, 10 Sec1-

## FLYBACK_1UNI_1BI_1AUX
designator T?
footprint EE20-10_HOR
footprint E25_Vertical
pins: 1 Pri+, 3 Pri-, 4 Sec2-, 4 Aux+, 5 Sec2+, 5 Aux-, 6 Sec1+, 8 Sec1+, 10 Sec1-

## FLYBACK_2OUT
designator T?, comment Trans3
Sim Note: Enter the turns ratios, Core loss resistance, Magnetising Reactance, Leakage Reactances and Resistances referred to the primary side into the parameter fields.; Published: 25-Jan-2001; LatestRevisionDate: 17-Jul-2002; LatestRevisionNote: Re-released for DXP Platform.; PackageReference: TRF_6; Publisher: Altium Limited
footprint EE20_HOR
pins: 1 Pri+, 5 Pri-, 6 Sec2+, 8 Sec1+, 9 Sec2-, 10 Sec1-

## FLYBACK_2OUT_AUX
designator T?
footprint E25_Vertical
footprint ETD29-13_HOR; pin to pad 5>6 6>9 9>10+11 10>12+13
pins: 1 Pri+, 3 Pri-, 4 Bias-, 5 Bias+, 6 Aux-, 7 Aux+, 9 Sec1-, 10 Sec1+

## FLYBACK_5W
designator T?
pins: 1 Pri+, 3 Pri-, 4 Bias-, 5 Bias+, 6 Aux-, 7 Aux+, 8 Aux+, 9 Sec1-, 10 Sec1+

## FLYBACK_BIPOLAR
designator T?
footprint EE16Vert6Pin
footprint EFD15-8; pin to pad 3>4 4>5 5>6 6>8
pins: 1 Pri+, 3 Pri-, 4 Sec2-, 5 Sec2+, 6 Sec1+

## FS8205
designator Q?
Dual N-Channel Enhancement Mode Power MOSFET; Power/Voltage: 20V, 5A; Manufacturer: *; ManufacturerPartNumber: *; Package: SOT-23-6
footprint SOT23-6_
pins: 1 S1, 2 D12, 3 S2, 4 G2, 5 D12, 6 G1

## FT232BM
designator U?
Published: 24-Aug-2001; LatestRevisionDate: 06-Jun-2005; LatestRevisionNote: Stylized 3D Model Added.; DatasheetVersion: Oct-1997; PackageReference: DIP8; Publisher: Altium Limited; PackageDescription: DIP; 8 Leads; Row Spacing 7.62 mm; Pitch 2.54 mm; Code_JEDEC: MO-001-AN; ComponentLink1Description: Manufacturer Link; ComponentLink1URL: http://www.st.com/; ComponentLink2Description: Datasheet; ComponentLink2URL: http://www.st.com/stonline/products/literature/ds/4848/lm211.pdf
footprint LQFP32LD (TQFP 32 Body 7x7)
pins: 1 EESK (out), 2 EEDATA (io), 3 VCC (power), 4 ~{RESET} (in), 5 ~{RSTOUT} (out), 6 3V3OUT (power), 7 USBDP (io), 8 USBDM (io), 9 GND (power), 10 ~{SLEEP} (out), 11 ~{RXLED} (oc), 12 ~{TXLED} (oc), 13 VCCIO (power), 14 PWRCTL (in), 15 ~{PWREN} (out), 16 TXDEN (out), 17 GND (power), 18 ~{RI} (in), 19 ~{DCD} (in), 20 ~{DSR} (in), 21 ~{DTR} (out), 22 ~{CTS} (in), 23 ~{RTS} (out), 24 RXD (in), 25 TXD (out), 26 VCC (power), 27 XTIN (in), 28 XTOUT (out), 29 AGND (power), 30 AVC (power), 31 TEST, 32 EECS (io)

## FT232RL
designator U?
footprint SSOP-28 (SSOP, Plastic; 28 Leads; Body Width 5.2 mm; Pitch 0.65 mm)
pins: 1 TXD (out), 2 ~{DTR} (out), 3 ~{RTS} (out), 4 VCCIO (power), 5 RXD (in), 6 ~{RI} (in), 7 GND (power), 9 ~{DSR} (in), 10 ~{DCD} (in), 11 ~{CTS} (in), 12 CBUS4 (io), 13 CBUS2 (io), 14 CBUS3 (io), 15 USBDP (io), 16 USBDM (io), 17 3V3OUT (power), 18 GND (power), 19 ~{RESET} (in), 20 VCC (power), 21 GND (power), 22 CBUS1 (io), 23 CBUS0 (io), 25 AGND (power), 26 TEST, 27 OSCI, 28 OSCO

## FUSE 250V
designator F?, comment FUSE
footprint FUSE_3.6x10_5
footprint FUSE_FH101
footprint FUSE_MST
pins: 1, 2

## HCPL316J
designator U?
footprint SOIC127P1030-16
pins: 1 Vin+ (in), 2 Vin- (in), 3 Vcc1 (power), 4 GND1 (power), 5 ~{RESET} (in), 6 ~{FAULT} (out), 7 Vled1+, 8 Vled1-, 9 Vee (power), 10 Vee (power), 11 Vout (out), 12 Vc (power), 13 Vcc2 (power), 14 DESAT (in), 15 Vled2+, 16 Ve (power)

## HJR-3FF
designator *
footprint HJR3FF
pins: 1, 2, 3, 4, 5

## HJR-4102
designator *
footprint HJR4102
pins: 1, 5, 6, 7, 8

## HMC321A
designator U?
GaAs SP8T Switch 8GHz
footprint LFCSP CP-24-16
footprint LFCSP CP-24-16-L
footprint LFCSP CP-24-16-M
pins: 1 GND (power), 2 RF2 (out), 3 GND (power), 4 RF3 (out), 5 GND (power), 6 RF4 (out), 7 GND (power), 8 VDD (power), 9 CTLC (in), 10 CTLB (in), 11 CTLA (in), 12 GND (power), 13 RF5 (out), 14 GND (power), 15 RF6 (out), 16 GND (power), 17 RF7 (out), 18 GND (power), 19 RF8 (out), 20 GND (power), 21 GND (power), 22 RFC (in), 23 GND (power), 24 RF1 (out), 25 EXP (power) hidden to GND

## HMC1122
designator U?
0.1 to 6GHz Silicon Digital Attenuator
footprint LFCSP HCP-24-3
footprint LFCSP HCP-24-3-L
footprint LFCSP HCP-24-3-M
pins: 1 ~{P}/S, 2 CLK (in), 3 SERIN (in), 4 LE (in), 5 GND (power), 6 ATTIN (in), 7 GND (power), 8 GND (power), 9 GND (power), 10 GND (power), 11 GND (power), 12 GND (power), 13 ATTOUT (out), 14 GND (power), 15 SEROUT (out), 16 PUP2, 17 PUP1, 18 VDD (power), 19 D5 (in), 20 D4 (in), 21 D3 (in), 22 D2 (in), 23 D1 (in), 24 D0 (in), 25 EXP (power) hidden to GND

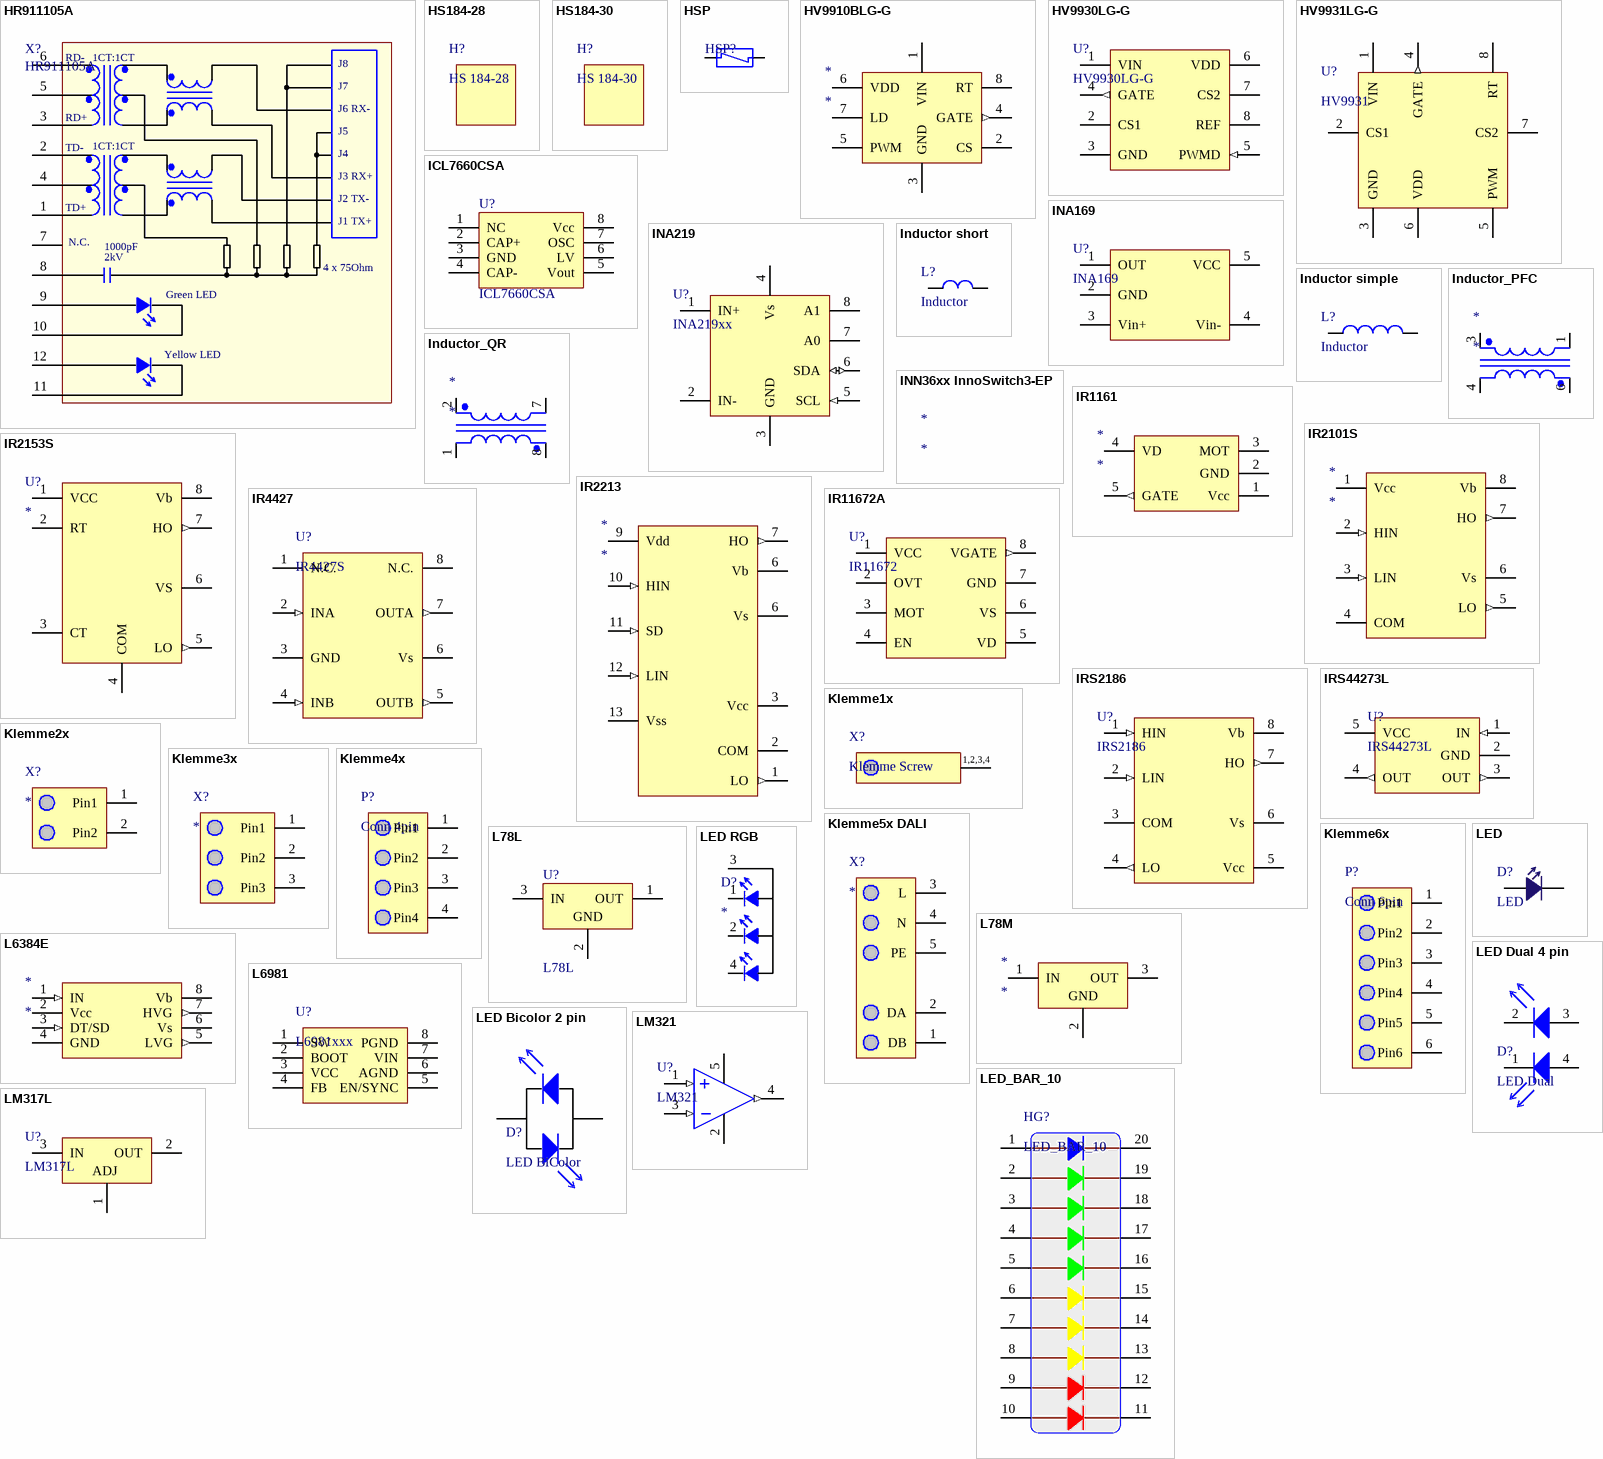
[diagram p4: symbols HR911105A to LM321]

## HR911105A
designator X?
RJ45 Connector with Magnetics Module and LED
footprint HR911105A (RJ45 Connector with Magnetics Module and LED)
pins: 1 TD+, 2 TD-, 3 RD+, 4, 5, 6 RD-, 7 RD-, 8 RD-, 9 RD-, 10 RD-, 11 RD-, 12 RD-
text: 1CT:1CT; J8; J7; J6 RX-; J5; J4; J3 RX+; J2 TX-; J1 TX+; N.C.; 1000pF; 2kV; 4 x 75Ohm; Green LED; Yellow LED

## HS184-28
designator H?, comment HS 184-28
Hearsink HS 184-28 (30x41x28) Custom
footprint HEATSINK HS 184-28mm

## HS184-30
designator H?, comment HS 184-30
Hearsink HS 184-30 (30x41x30)
footprint HEATSINK HS 184-30mm

## HSP
designator HSP?  (value not drawn)
Value: 100K; Published: 8-Jun-2000; LatestRevisionDate: 17-Jul-2002; LatestRevisionNote: Re-released for DXP Platform.; PackageReference: AXIAL-0.4; Publisher: Altium Limited
footprint HSP_TBU
pins: 1, 2

## HV9910BLG-G
designator *
footprint SOIC127P600-8
pins: 1 VIN (power), 2 CS, 3 GND (power), 4 GATE (out), 5 PWM (power), 6 VDD (power), 7 LD, 8 RT

## HV9930LG-G
designator U?
Hysteretic Boost-Buck (Ćuk) LED Driver; Manufacturer: Microchip; ManufacturerPartNumber: *; Package: SO-8
footprint SOIC127P600-8
pins: 1 VIN (power), 2 CS1, 3 GND (power), 4 GATE (out), 5 PWMD (in), 6 VDD (power), 7 CS2, 8 REF

## HV9931LG-G
designator U?, comment HV9931
footprint SOIC127P600-8
pins: 1 VIN (power), 2 CS1, 3 GND (power), 4 GATE (out), 5 PWM (power), 6 VDD (power), 7 CS2, 8 RT

## ICL7660CSA
designator U?
Published: 24-Aug-2001; LatestRevisionDate: 06-Jun-2005; LatestRevisionNote: Stylized 3D Model Added.; DatasheetVersion: Oct-1997; PackageReference: DIP8; Publisher: Altium Limited; PackageDescription: DIP; 8 Leads; Row Spacing 7.62 mm; Pitch 2.54 mm; Code_JEDEC: MO-001-AN; ComponentLink1Description: Manufacturer Link; ComponentLink1URL: http://www.st.com/; ComponentLink2Description: Datasheet; ComponentLink2URL: http://www.st.com/stonline/products/literature/ds/4848/lm211.pdf
footprint DIP8 (DIP; 8 Leads; Row Spacing 7.62 mm; Pitch 2.54 mm)
footprint SOIC127P600-8
pins: 1 NC, 2 CAP+ (power), 3 GND (power), 4 CAP- (power), 5 Vout (power), 6 LV, 7 OSC, 8 Vcc (power)

## INA169
designator U?
footprint SOT23-5_
pins: 1 OUT, 2 GND (power), 3 Vin+, 4 Vin- (power), 5 VCC (power)

## INA219
designator U?, comment INA219xx
Zerø-Drift, Bidirectional Current/Power Monitor With I2C Interface; Manufacturer: Texas Instruments; Package: SOT23-8, SO-8
footprint SOT23-8_
pins: 1 IN+, 2 IN- (power), 3 GND (power), 4 Vs (power), 5 SCL (in), 6 SDA (io), 7 A0, 8 A1

## Inductor short
designator L?, comment Inductor
Manufacturer: *; ManufacturerPartNumber: *; Package: *; Value: *
footprint B82464G4 (SMT Power Inductor)
footprint B82477G4
footprint CDRH104
footprint CDRH125NP
footprint CDRH127
footprint COIL 1812 (Chip Coil 1812 Size)
footprint LC1608_N
footprint LC2012_N
footprint LC3216_N
pins: 1, 2

## Inductor simple
designator L?, comment Inductor
footprint B82477G4
footprint CDRH104
footprint CDRH125NP
footprint CDRH127
footprint Inductor 6100 11x11
footprint LC1608_N
footprint LC4532_N
pins: 1, 2

## Inductor_PFC
designator *
footprint E20_VERTICAL
footprint EF-25C-4S_P2505-1; pin to pad 1>7
footprint EE20_HOR; pin to pad 1>8 4>2 6>10
footprint ETD29-13_HOR; pin to pad 1>12 6>11
pins: 1 Pri+, 3 Pri-, 4 Sec1-, 6 Sec1+

## Inductor_QR
designator *
footprint EF-25C-4S_P2505-1
footprint EE20_HOR; pin to pad 2>3 7>8 8>10
pins: 1 Sec1-, 2 Pri-, 7 Pri+, 8 Sec1+

## INN36xx InnoSwitch3-EP
designator *

## IR1161
designator *
footprint SOT23-5_
pins: 1 Vcc (power), 2 GND (power), 3 MOT, 4 VD, 5 GATE (out)

## IR2101S
designator *
footprint SOIC127P600-8
pins: 1 Vcc (power), 2 HIN (in), 3 LIN (in), 4 COM (power), 5 LO (out), 6 Vs (power), 7 HO (out), 8 Vb (power)

## IR2153S
designator U?
footprint SOIC127P600-8
pins: 1 VCC (power), 2 RT, 3 CT, 4 COM (power), 5 LO (out), 6 VS, 7 HO (out), 8 Vb (power)

## IR2213
designator *
pins: 1 LO (out), 2 COM (power), 3 Vcc (power), 6 Vb (power), 6 Vs (power), 7 HO (out), 9 Vdd (power), 10 HIN (in), 11 SD (in), 12 LIN (in), 13 Vss (power)

## IR4427
designator U?, comment IR4427S
DUAL LOW SIDE DRIVER
footprint SOIC127P600-8
pins: 1 N.C. (power), 2 INA (in), 3 GND (power), 4 INB (in), 5 OUTB (out), 6 Vs (power), 7 OUTA (out), 8 N.C. (power)

## IR11672A
designator U?, comment IR11672
footprint SOIC127P600-8
pins: 1 VCC (power), 2 OVT, 3 MOT, 4 EN (power), 5 VD, 6 VS, 7 GND (power), 8 VGATE (out)

## IRS2186
designator U?
footprint SOIC127P600-8
pins: 1 HIN (in), 2 LIN (in), 3 COM (power), 4 LO (out), 5 Vcc (power), 6 Vs (power), 7 HO (out), 8 Vb (power)

## IRS44273L
designator U?
footprint SOT23-5_
pins: 1 IN (in), 2 GND (power), 3 OUT (out), 4 OUT (out), 5 VCC (power)

## Klemme1x
designator X?, comment Klemme Screw
footprint K13_
pins: 1 Pin1, 2 Pin2, 3 Pin3, 4 Pin4
text: 1,2,3,4

## Klemme2x
designator X?
footprint DG250-3.5-2
footprint DG129-5.0-2
footprint MPW-02
footprint B2P-VH-R
footprint B2P-VH
footprint DS1070-2
pins: 1 Pin1, 2 Pin2

## Klemme3x
designator X?
footprint DG129-5.0-3
footprint DG129R-5.0-3
footprint DG250-3.5-3
footprint MPW-03
footprint B3P-VH
footprint B3P-VH-R
footprint DS1070-3
pins: 1 Pin1, 2 Pin2, 3 Pin3

## Klemme4x
designator P?, comment Conn 4pin
footprint DS1070-4
footprint DG250-3.5-4
pins: 1 Pin1, 2 Pin2, 3 Pin3, 4 Pin4

## Klemme5x DALI
designator X?
footprint DG250-3.5-5
footprint DG129-5.0-5
footprint DG129R-5.0-5
pins: 1 DB, 2 DA, 3 L, 4 N, 5 PE

## Klemme6x
designator P?, comment Conn 6pin
footprint DS1066-06M (PCB Connector 2.0mm PH TYPE)
pins: 1 Pin1, 2 Pin2, 3 Pin3, 4 Pin4, 5 Pin5, 6 Pin6

## L78L
designator U?
footprint SOT89L_ (SOT89, 3-Leads, Body 4.5x2.4 mm, Pitch 1.5mm, Lead Span 4.1mm, IPC High Density)
pins: 1 OUT (power), 2 GND (power), 3 IN (power)

## L78M
designator *
footprint DPAK_TO228P990-3_4M_ (D-PAK, 4-Leads, Body 6.1x6.5mm, Pitch 2.28mm, Lead Span 9.9mm, IPC Low Density)
pins: 1 IN (power), 2 GND (power), 3 OUT (power)

## L6384E
designator *
footprint SOIC127P600-8
pins: 1 IN (in), 2 Vcc (power), 3 DT/SD (in), 4 GND (power), 5 LVG (out), 6 Vs (power), 7 HVG (out), 8 Vb (power)

## L6981
designator U?, comment L6981xxx
38V, 1.5A synchronous step-down converter
footprint SOIC127P600-8
pins: 1 SW, 2 BOOT, 3 VCC (power), 4 FB, 5 EN/SYNC, 6 AGND (power), 7 VIN (power), 8 PGND (power)

## LED
designator D?
footprint LED_2012_RED
footprint LED_2012_GREEN
footprint LED_2012_BLUE
footprint LED_2012_YELLOW
footprint LED_3mm_RED
footprint LED_3mm_GREEN
footprint LED_3mm_BLUE
footprint LED_3mm_YELLOW
footprint LED_3mm_CLEAR
pins: 1 A, 2 K

## LED Bicolor 2 pin
designator D?, comment LED BiColor
footprint LED_3mm_CLEAR
pins: 1 A, 2 K

## LED Dual 4 pin
designator D?, comment LED Dual
footprint LED_Dual_4pins
pins: 1 A, 2 K, 3 K, 4 K

## LED RGB
designator D?
4-pin RGB LEG
footprint LED RGB
pins: 1 KB (power), 2 KG (power), 3 A (power), 4 KR (power)

## LED_BAR_10
designator HG?
10 Segment Bar Graph Multicolor LED Array; Manufacturer: *; Package: *
footprint LED_BAR_10_MULTI
pins: 1, 2, 3, 4, 5, 6, 7, 8, 9, 10, 11, 12, 13, 14, 15, 16, 17, 18, 19, 20

## LM317L
designator U?
footprint TO-92_1
footprint SOT89L_ (SOT89, 3-Leads, Body 4.5x2.4 mm, Pitch 1.5mm, Lead Span 4.1mm, IPC High Density)
pins: 1 ADJ, 2 OUT (power), 3 IN (power)

## LM321
designator U?
Manufacturer: *; Manufacturer Part Number: *; Package: SOT23-5
footprint SOT23-5_
pins: 1 IN+ (in), 2 GND (power), 3 IN- (in), 4 OUT (out), 5 VDD (power)

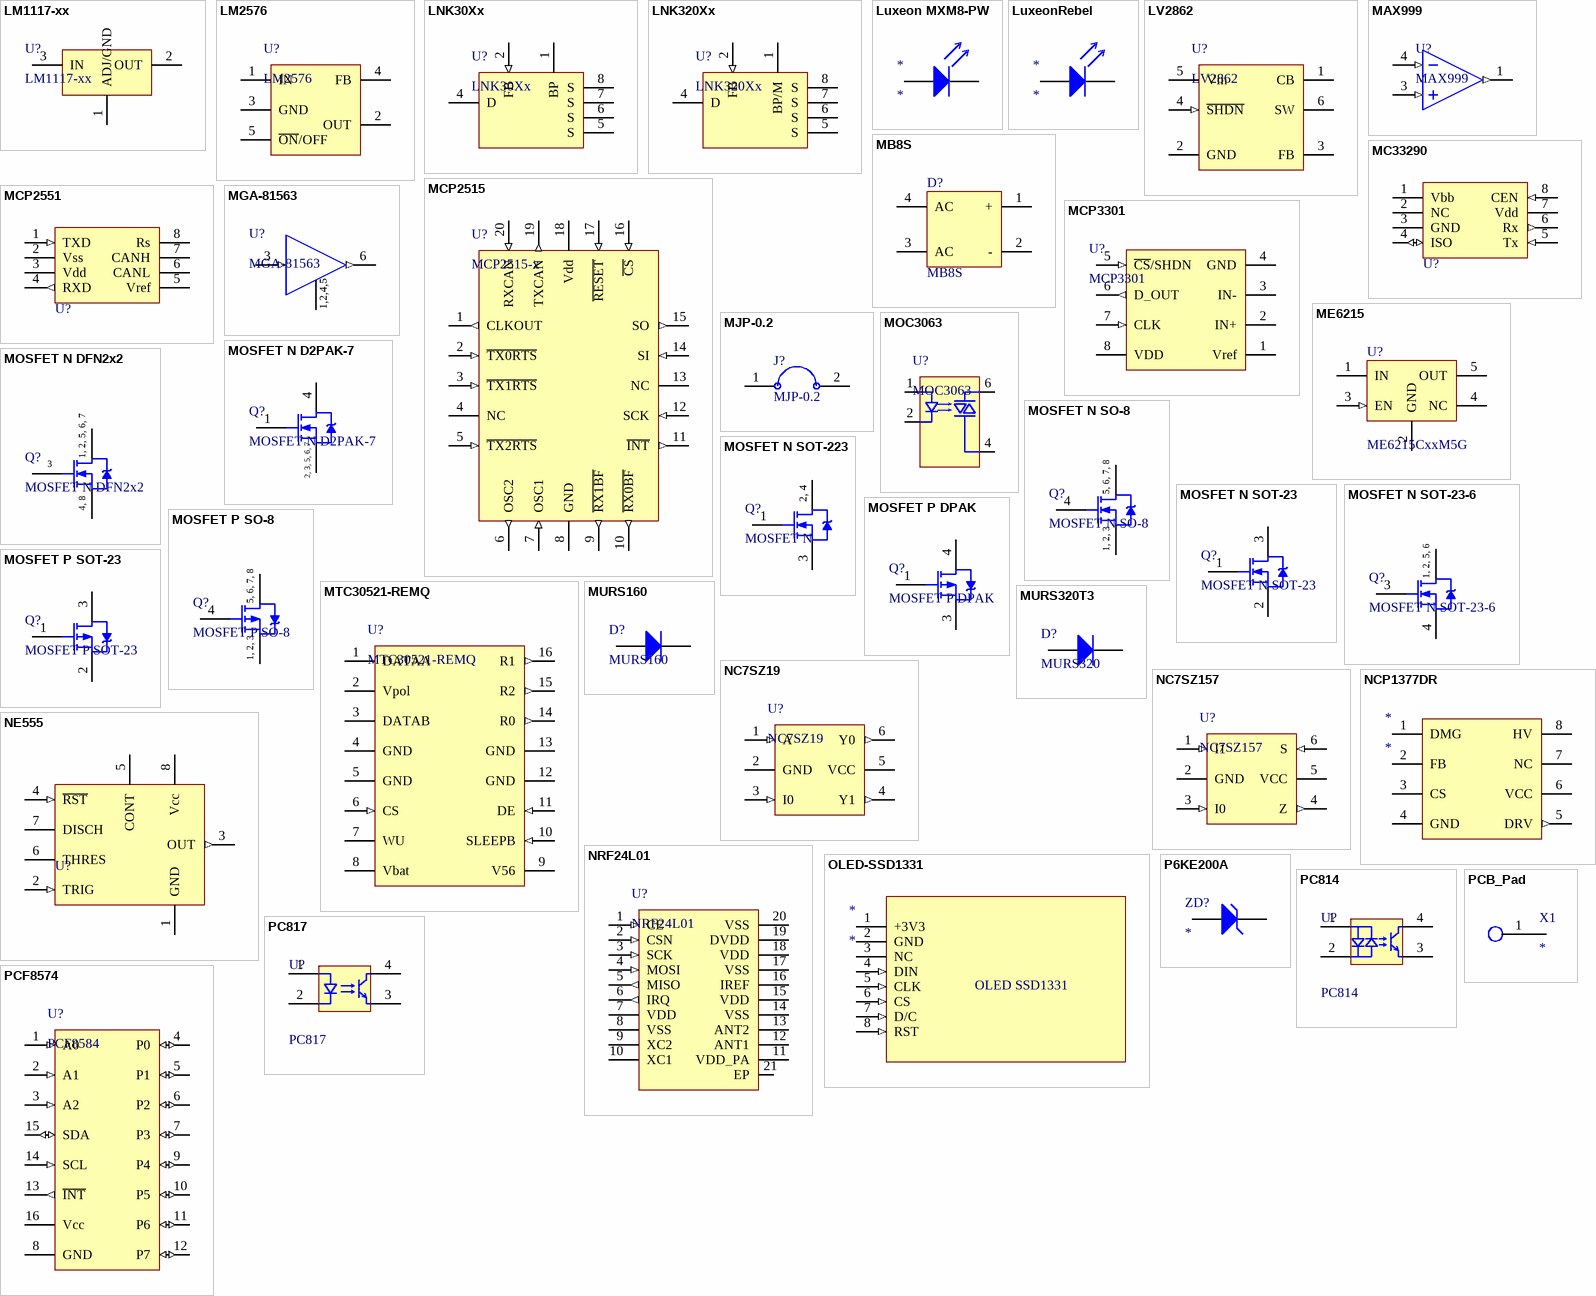
[diagram p5: symbols LM1117-xx to PCF8574]

## LM1117-xx
designator U?
800mA LDO in SOT-223
footprint SOT223_
footprint DPAK_TO228P990-3_4M_ (D-PAK, 4-Leads, Body 6.1x6.5mm, Pitch 2.28mm, Lead Span 9.9mm, IPC Low Density)
pins: 1 ADJ/GND, 2 OUT (power), 3 IN (power)

## LM2576
designator U?
footprint TO-220 5-Leads Mirrored Surface Mount
pins: 1 IN (power), 2 OUT (power), 3 GND (power), 4 FB, 5 ~{ON}/OFF

## LNK30Xx
designator U?
footprint SOIC127P600-7-3
footprint SMD-8B
pins: 1 BP (power), 2 FB (in), 4 D (oc), 5 S (power), 6 S (power), 7 S (power), 8 S (power)

## LNK320Xx
designator U?
footprint SOIC127P600-7-3
footprint SMD-8C
pins: 1 BP/M (power), 2 FB (in), 4 D, 5 S (power), 6 S (power), 7 S (power), 8 S (power)

## Luxeon MXM8-PW
designator *
footprint Mid-Power 3535 (Luxeon Mid-Power 3535 LED)
footprint MID-POWER 3535 no heatsink
pins: 1 K, 2 A

## LuxeonRebel
designator *
pins: 1 K, 2 A

## LV2862
designator U?
60-V, 600-mAHigh EfficiencyWide Input VoltageRangeBuck Converter
footprint SOT23-6_
pins: 1 CB, 2 GND (power), 3 FB, 4 ~{SHDN} (in), 5 Vin (power), 6 SW

## MAX999
designator U?
footprint SOT23-5_
pins: 1 OUT (out), 2 GND (power) hidden, 3 IN+ (in), 4 IN- (in), 5 +5V (power) hidden

## MB8S
designator D?
Published: 24-Aug-2001; LatestRevisionDate: 06-Jun-2005; LatestRevisionNote: Stylized 3D Model Added.; DatasheetVersion: Oct-1997; PackageReference: DIP8; Publisher: Altium Limited; PackageDescription: DIP; 8 Leads; Row Spacing 7.62 mm; Pitch 2.54 mm; Code_JEDEC: MO-001-AN; ComponentLink1Description: Manufacturer Link; ComponentLink1URL: http://www.st.com/; ComponentLink2Description: Datasheet; ComponentLink2URL: http://www.st.com/stonline/products/literature/ds/4848/lm211.pdf
footprint DIODE_BRIDGE_SMD_SMALL
pins: 1 + (power), 2 - (power), 3 AC (power), 4 AC (power)

## MC33290
designator U?  (value not drawn)
footprint SOIC127P600-8
pins: 1 Vbb (power), 2 NC, 3 GND (power), 4 ISO (io), 5 Tx (in), 6 Rx (out), 7 Vdd (power), 8 CEN (in)

## MCP2515
designator U?, comment MCP2515-x
Stand-Alone CAN Controller with SPI Interface
footprint 20M1_M_ (QFN, 20-Leads, Body 4x4mm, Pitch 0.5mm)
footprint SOIC127P1030-18 (SOIC, 18-Leads, Body 12.8x7.5mm, Pitch 1.27mm, IPC Medium Density); pin to pad 1>3 2>4 3>5 4>none 5>6 6>7 7>8 8>9 9>10 10>11 11>12 12>13 13>none 19>1 20>2 21>none
pins: 1 CLKOUT (out), 2 ~{TX0RTS} (in), 3 ~{TX1RTS} (in), 4 NC, 5 ~{TX2RTS} (in), 6 OSC2 (out), 7 OSC1 (in), 8 GND (power), 9 ~{RX1BF} (out), 10 ~{RX0BF} (out), 11 ~{INT} (out), 12 SCK (in), 13 NC, 14 SI (in), 15 SO (out), 16 ~{CS} (in), 17 ~{RESET} (in), 18 Vdd (power), 19 TXCAN (out), 20 RXCAN (in), 21 EP hidden

## MCP2551
designator U?, comment MCP2551-I/SN  (value not drawn)
High-Speed CAN Transceiver
footprint SOIC127P600-8
pins: 1 TXD (in), 2 Vss (power), 3 Vdd (power), 4 RXD (out), 5 Vref (power), 6 CANL (oe), 7 CANH (oc), 8 Rs

## MCP3301
designator U?
footprint SOIC127P600-8
pins: 1 Vref, 2 IN+, 3 IN-, 4 GND (power), 5 ~{CS}/SHDN (in), 6 D_OUT (out), 7 CLK (in), 8 VDD (power)

## ME6215
designator U?, comment ME6215CxxM5G
Manufacturer: Microne; ManufacturerPartNumber: ME6215CxxM5G; Package: SOT-23-5; Power/Voltage: *
footprint SOT23-5_
pins: 1 IN (power), 2 GND (power), 3 EN (in), 4 NC, 5 OUT (power)

## MGA-81563
designator U?
0.1 – 6 GHz 3 V, 14 dBm Amplifier; Manufacturer: Agilent Technologies; Manufacturer Part Number: *; Package: SOT-363
footprint SOT363-6_
pins: 1 GND (power), 2 GND (power), 3 IN- (in), 4 GND (power), 5 GND (power), 6 OUT (out)
text: 1,2,4,5

## MJP-0.2
designator J?
Jumper Wire; Published: 24-Mar-1999; LatestRevisionDate: 17-Jul-2002; LatestRevisionNote: Re-released for DXP Platform.; PackageReference: SPST-2; Publisher: Altium Limited; PackageDescription: Switch; 2 Leads
footprint BUTTON SMD 5x5
footprint MJP-0.2
pins: 1, 2

## MOC3063
designator U?
footprint DIP-6 (DIP; 6 Leads; Row Spacing 7.62 mm; Pitch 2.54 mm)
footprint SMD-6
pins: 1 A, 2 K, 4 E, 6 C

## MOSFET N D2PAK-7
designator Q?
footprint D2PAK-7 (PG-TO263-7)
pins: 1 G, 2 S, 3 S, 4 D, 5 S, 6 S, 7 S
text: 2, 3, 5, 6, 7

## MOSFET N DFN2x2
designator Q?
Manufacturer: *; ManufacturerPartNumber: *; Package: DFN 2x2; Power/Voltage: *
footprint DFN_2x2-6-0.65
pins: 1 D, 2 D, 3 G, 4 S, 5 D, 6 D, 7 D, 8 S
text: 1, 2, 5, 6, 7; 4, 8

## MOSFET N SO-8
designator Q?
Manufacturer: *; ManufacturerPartNumber: *; Package: *; Power/Voltage: *
footprint SOIC127P600-8
footprint PG-TSDSON-8
footprint DFN5 5X6
pins: 1 S, 2 S, 3 S, 4 G, 5 D, 6 D, 7 D, 8 D
text: 5, 6, 7, 8; 1, 2, 3

## MOSFET N SOT-23
designator Q?
MOSFET N in SOT23-3 package; Package: SOT23-3
footprint SOT23_
pins: 1 G, 2 S, 3 D

## MOSFET N SOT-23-6
designator Q?
footprint SOT23-6_
pins: 1 D, 2 D, 3 G, 4 S, 5 D, 6 D
text: 1, 2, 5, 6

## MOSFET N SOT-223
designator Q?, comment MOSFET N
footprint SOT223_
pins: 1 G, 2 D, 3 S, 4 D
text: 2, 4

## MOSFET P DPAK
designator Q?
MOSFET P in DPAK package; Package: DPAK
footprint DPAK_TO228P990-3_4M_ (D-PAK, 4-Leads, Body 6.1x6.5mm, Pitch 2.28mm, Lead Span 9.9mm, IPC Low Density)
footprint D2PAK_L_
pins: 1 G, 3 S, 4 D

## MOSFET P SO-8
designator Q?
footprint SOIC127P600-8
footprint PG-TSDSON-8
footprint SOIC127P600-8
footprint DFN5 5X6
pins: 1 S, 2 S, 3 S, 4 G, 5 D, 6 D, 7 D, 8 D
text: 5, 6, 7, 8; 1, 2, 3

## MOSFET P SOT-23
designator Q?
MOSFET P in SOT23-3 package; Package: SOT23-3
footprint SOT23_
pins: 1 G, 2 S, 3 D

## MTC30521-REMQ
designator U?
VAN Interface
footprint SOIC127P1030-16
pins: 1 DATAA, 2 Vpol, 3 DATAB, 4 GND (power), 5 GND (power), 6 CS (in), 7 WU, 8 Vbat (power), 9 V56 (power), 10 SLEEPB (in), 11 DE (in), 12 GND (power), 13 GND (power), 14 R0 (out), 15 R2 (out), 16 R1 (out)

## MURS160
designator D?
footprint SMB_DO214 (DO-214-AA/SMB; 2 C-Bend Leads; Body 5.3 x 3.6 mm)
pins: 1 A, 2 K

## MURS320T3
designator D?, comment MURS320
footprint SMC_DO214 (DO-214-AB/SMC; 2 C-Bend Leads; Body 7.9 x 5.9 mm)
pins: 1 A, 2 K

## NC7SZ19
designator U?
TinyLogic UHS 1-of-2 / Decoder / Demultiplexer
footprint SOT363-6_
pins: 1 A (in), 2 GND (power), 3 I0 (in), 4 Y1 (out), 5 VCC (power), 6 Y0 (out)

## NC7SZ157
designator U?
TinyLogic UHS 2-Input Non-Inverting Multiplexer
footprint SOT363-6_
pins: 1 I1 (in), 2 GND (power), 3 I0 (in), 4 Z (out), 5 VCC (power), 6 S (in)

## NCP1377DR
designator *
footprint SOIC127P600-8
footprint SOIC127P600-7-7
pins: 1 DMG, 2 FB, 3 CS, 4 GND (power), 5 DRV (out), 6 VCC (power), 7 NC, 8 HV (power)

## NE555
designator U?  (value not drawn)
xx555 Precision Timers
footprint DIP-8 (DIP; 8 Leads; Row Spacing 7.62 mm; Pitch 2.54 mm)
footprint SO-8_Wide
footprint SOIC127P600-8
pins: 1 GND (power), 2 TRIG (in), 3 OUT (out), 4 ~{RST} (in), 5 CONT, 6 THRES, 7 DISCH, 8 Vcc (power)

## NRF24L01
designator U?
Single Chip 2.4GHz Transceiver; Manufacturer: NORDIC Semiconductor; ManufacturerPartNumber: *; Package: QFN20 4x4
footprint 20M1_M_ (QFN, 20-Leads, Body 4x4mm, Pitch 0.5mm)
pins: 1 CE (in), 2 CSN (in), 3 SCK (in), 4 MOSI (in), 5 MISO (out), 6 IRQ (out), 7 VDD (power), 8 VSS (power), 9 XC2, 10 XC1, 11 VDD_PA (power), 12 ANT1, 13 ANT2, 14 VSS (power), 15 VDD (power), 16 IREF, 17 VSS (power), 18 VDD (power), 19 DVDD (power), 20 VSS (power), 21 EP (power)

## OLED-SSD1331
designator *
footprint ISP_2mm
pins: 1 +3V3 (power), 2 GND (power), 3 NC, 4 DIN (in), 5 CLK (in), 6 CS (in), 7 D/C (in), 8 RST (in)
text: OLED SSD1331

## P6KE200A
designator ZD?
pins: 1 A, 2 K

## PC814
designator U?
footprint DIP-4 (DIP; 4 Leads; Row Spacing 7.62 mm; Pitch 2.54 mm)
footprint SOIC127P600-4
pins: 1 A, 2 K, 3 E, 4 C

## PC817
designator U?
Note: Coupling Capacitance, 0.5 pF; Note: Transfer Ratio, 35 % Typical; Published: 6-Oct-2005; DatasheetDocument: Rev. 1.4, Oct-2004; PackageDocument: Dec-2003; PackageReference: DIP8; Publisher: Altium Limited; ComponentLink1Description: Manufacturer Link; ComponentLink1URL: http://www.vishay.com/optocouplers/list/product-83640/; ComponentLink2Description: Datasheet; ComponentLink2URL: http://www.vishay.com/docs/83640/83640.pdf
footprint DIP-4 (DIP, 4-Pin, Row Spacing 7.62 mm, Pitch 2.54 mm)
footprint SOIC127P600-4
pins: 1 A, 2 K, 3 E, 4 C

## PCB_Pad
designator X1
footprint MC_PCB_Pad_Footprint
pins: 1

## PCF8574
designator U?, comment PCF8584
Remote 8-Bit I/O Expander for I2C Bus; Manufacturer: *; Package: *
footprint DIP-16 (DIP; 16 Leads; Row Spacing 7.62 mm; Pitch 2.54 mm)
footprint SOIC127P602-16_
footprint SOIC127P1030-16
pins: 1 A0 (in), 2 A1 (in), 3 A2 (in), 4 P0 (io), 5 P1 (io), 6 P2 (io), 7 P3 (io), 8 GND (power), 9 P4 (io), 10 P5 (io), 11 P6 (io), 12 P7 (io), 13 ~{INT} (out), 14 SCL (in), 15 SDA (io), 16 Vcc (power)

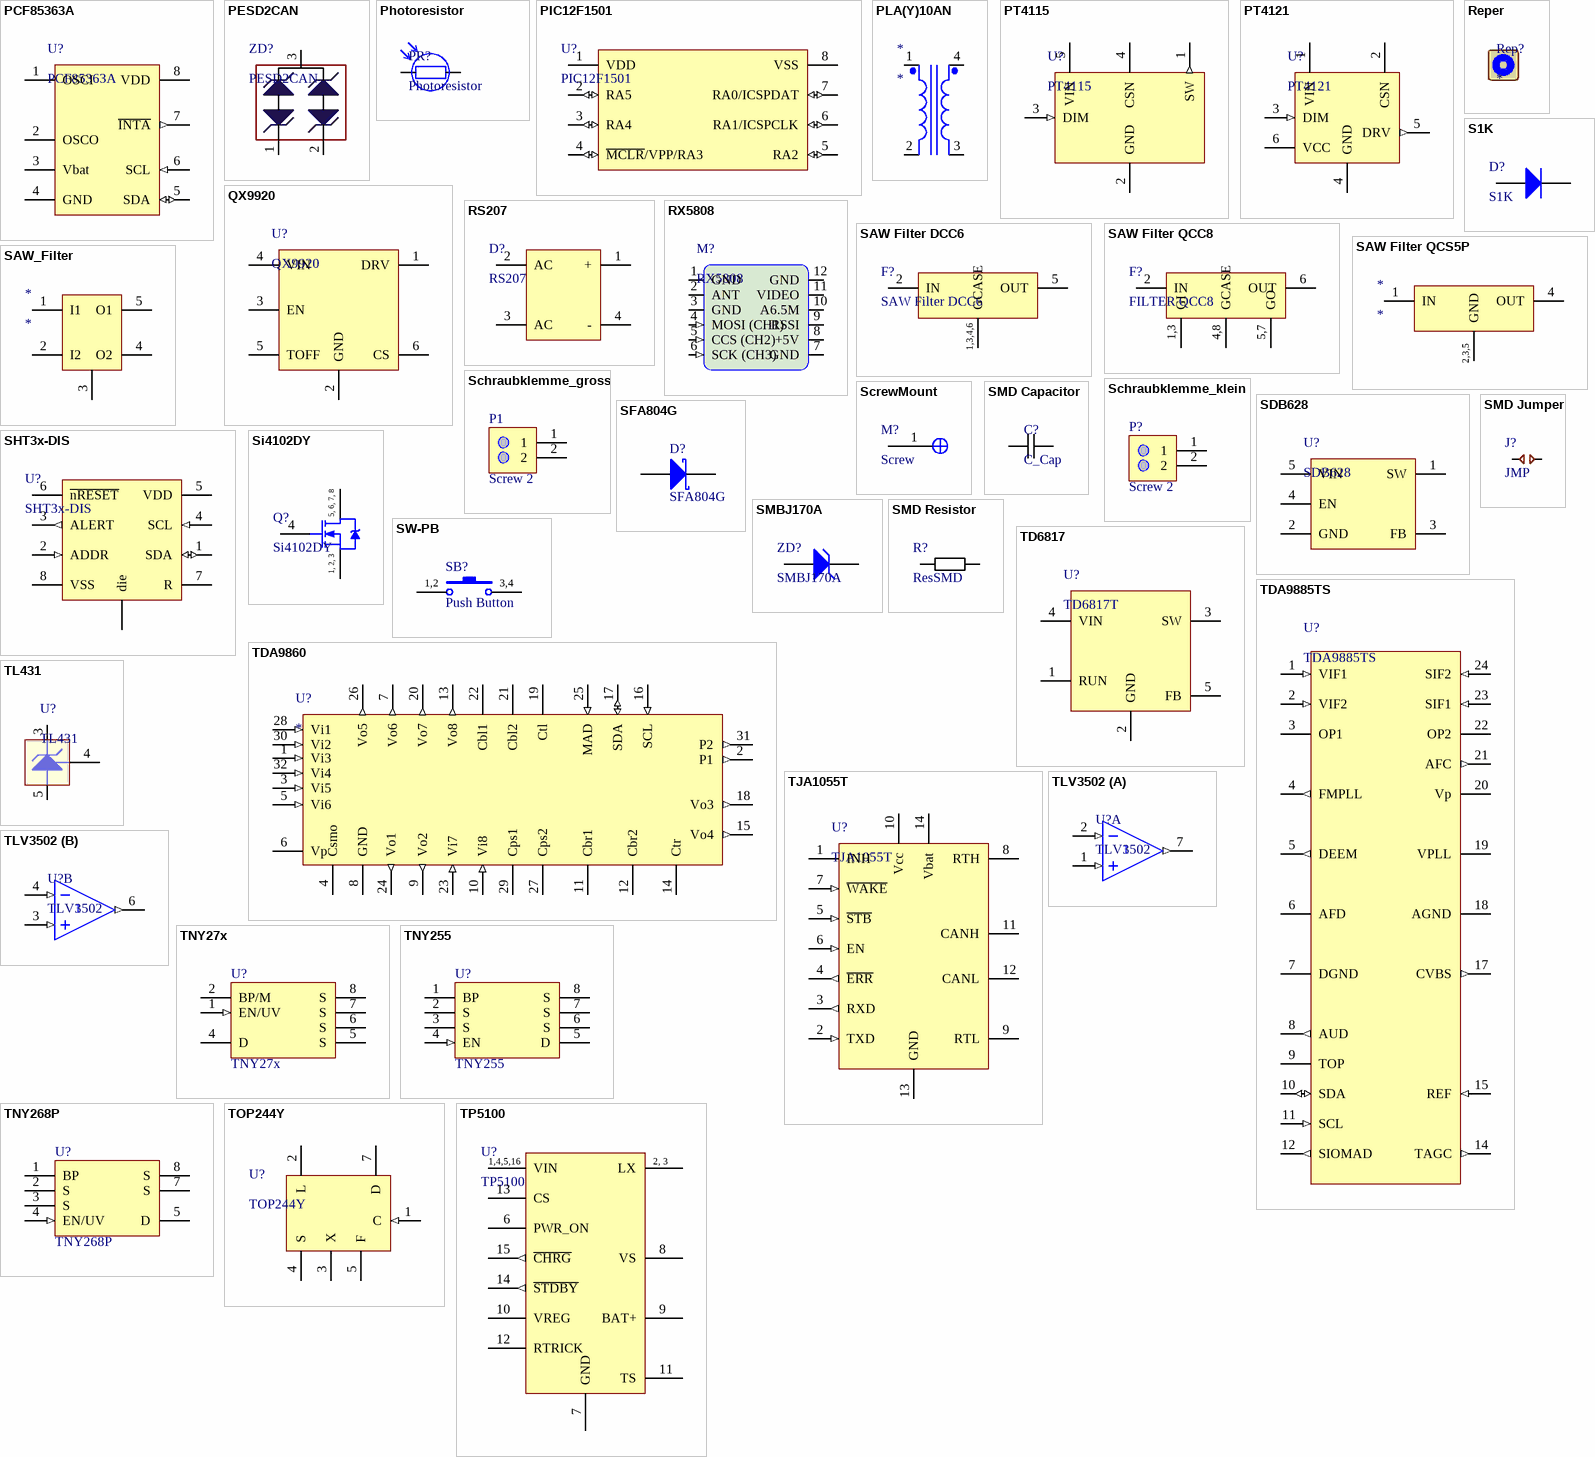
[diagram p6: symbols PCF85363A to TP5100]

## PCF85363A
designator U?
Real Time Clock
footprint TSSOP8
pins: 1 OSCI, 2 OSCO, 3 Vbat (power), 4 GND (power), 5 SDA (io), 6 SCL (in), 7 ~{INTA} (out), 8 VDD (power)

## PESD2CAN
designator ZD?
CAN bus ESD protection diode; Package: SOT23-3
footprint SOT23_
pins: 1 A, 2 K, 3 K

## Photoresistor
designator PR?
pins: 1, 2

## PIC12F1501
designator U?
footprint SOIC127P600-8
pins: 1 VDD (power), 2 RA5 (io), 3 RA4 (io), 4 ~{MCLR}/VPP/RA3 (io), 5 RA2 (io), 6 RA1/ICSPCLK (io), 7 RA0/ICSPDAT (io), 8 VSS (power)

## PLA(Y)10AN
designator *
footprint PLA(Y)10
pins: 1 Pri+, 2 Pri-, 3 Sec1-, 4 Sec1+

## PT4115
designator U?
30V, 1.2A Step-Down LED Driver with 5000:1 Dimming
footprint SOT89-5_ (SOT89, 5-Leads, Body 4.5x2.4 mm, Pitch 1.5mm, Lead Span 4.1mm)
pins: 1 SW (out), 2 GND (power), 3 DIM (in), 4 CSN (power), 5 VIN (power)

## PT4121
designator U?
footprint SOT23-6_
pins: 1 VIN (power), 2 CSN (power), 3 DIM (in), 4 GND (power), 5 DRV (out), 6 VCC (power)

## QX9920
designator U?
Buck Type High-power LED Driver; Manufacturer: QX Micro Devices Co.; Package: SOT23-6
footprint SOT23-6_
pins: 1 DRV, 2 GND (power), 3 EN, 4 VIN (power), 5 TOFF, 6 CS

## Reper
designator Rep?  (no BOM)
footprint Reper1
pins: R0 0 hidden

## RS207
designator D?
footprint RS207_BRIDGE
pins: 1 + (power), 2 AC (power), 3 AC (power), 4 - (power)

## RX5808
designator M?
5.8GHz Receiver Module; Manufacturer: NORDIC Semiconductor; ManufacturerPartNumber: *; Package: QFN20 4x4
footprint RX5808_Module (ESP32-WROOM-32E Wi-Fi Module with integrated Antenna)
pins: 1 GND (power), 2 ANT, 3 GND (power), 4 MOSI (CH1) (in), 5 CCS (CH2) (in), 6 SCK (CH3) (in), 7 GND (power), 8 +5V (power), 9 RSSI, 10 A6.5M, 11 VIDEO, 12 GND (power)

## S1K
designator D?
footprint SMA_DO214 (DO-214-AC/SMA; 2 C-Bend Leads; Body 5.3 x 2.6 mm)
pins: 1 A, 2 K

## SAW Filter DCC6
designator F?
footprint DCC6 (SAW Filter DCC6 Footprint)
pins: 1 GCASE (power), 2 IN, 3 GCASE (power), 4 GCASE (power), 5 OUT, 6 GCASE (power)
text: 1,3,4,6

## SAW Filter QCC8
designator F?, comment FILTER QCC8
footprint QCC8 (QCC8 SAW Filter Case)
pins: 1 GI (power), 2 IN, 3 GI (power), 4 GCASE (power), 5 GO (power), 6 OUT, 7 GO (power), 8 GCASE (power)
text: 1,3; 4,8; 5,7

## SAW Filter QCS5P
designator *
pins: 1 IN, 2 GND (power), 3 GND (power), 4 OUT, 5 GND (power)
text: 2,3,5

## SAW_Filter
designator *
pins: 1 I1, 2 I2, 3 (power), 4 O2, 5 O1

## Schraubklemme_gross
designator P1, comment Screw 2
Screw terminal, 2-Pin; LatestRevisionDate: 17-Jul-2002; LatestRevisionNote: Re-released for DXP Platform.; Publisher: Altium Limited
signal-integrity model Connector
footprint Klemme_gross
pins: 1, 2

## Schraubklemme_klein
designator P?, comment Screw 2
Screw terminal, 2-Pin; LatestRevisionDate: 17-Jul-2002; LatestRevisionNote: Re-released for DXP Platform.; Publisher: Altium Limited
signal-integrity model Connector
footprint Schraubklemme_small
pins: 1, 2

## ScrewMount
designator M?, comment Screw
footprint Screw_M3
footprint SCREW_M4
pins: 1

## SDB628
designator U?
High Efficiency 1.2MHz 2A Step-Up Converter
footprint SOT23-6_
pins: 1 SW, 2 GND (power), 3 FB, 4 EN, 5 VIN (power)

## SFA804G
designator D?
LatestRevisionDate: 17-Jul-2002; LatestRevisionNote: Re-released for DXP Platform.; Publisher: Altium Limited
footprint TO_220_Heatsink
pins: 1 K, 3 A

## SHT3x-DIS
designator U?
footprint DFN8-2.5x2.5-0.5
pins: 1 SDA (io), 2 ADDR (in), 3 ALERT (out), 4 SCL (in), 5 VDD (power), 6 ~{nRESET}, 7 R, 8 VSS (power), 9 die

## Si4102DY
designator Q?
footprint SOIC127P600-8
pins: 1 S, 2 S, 3 S, 4 G, 5 D, 6 D, 7 D, 8 D
text: 5, 6, 7, 8; 1, 2, 3

## SMBJ170A
designator ZD?
footprint SMB_DO214 (DO-214-AA/SMB; 2 C-Bend Leads; Body 5.3 x 3.6 mm)
pins: 1 A, 2 K

## SMD Capacitor
designator C?, comment C_Cap
Capacitor SMD xxx yyy xxV ???; Manufacturer: *; ManufacturerPartNumber: *; Package: *; Value: *; Power/Voltage: *; Tolerance: *; TKE: *
footprint CAPC1005_L (Chip Capacitor, Body 1.1x0.5mm, IPC High Density)
footprint CAPC1608_N
footprint CAPC2012_N
footprint CAPC3216_N
footprint CAPC3225_N
footprint CAPC5650_2220
footprint CAPC0603_L (Chip Capacitor, Body 0.6x0.3mm, IPC High Density)
pins: 1, 2

## SMD Jumper
designator J?, comment JMP
Jumper SMD; Value: 0 Ohm; Manufacturer: *; ManufacturerPartNumber: *; Package: *; Power/Voltage: *; TKE: *; Tolerance: *
footprint RESC1005_L (Chip Resistor, Body 1.1x0.5mm, IPC High Density)
footprint RESC1608_N
footprint RESC2012_N
footprint RESC2012_Nx
footprint RESC3216_N
footprint RESC3225_N
footprint RESC4532_N
footprint RESC5025_N
footprint RESC6332_N
pins: 1, 2

## SMD Resistor
designator R?, comment ResSMD
Resistor SMD xxxx yyy  z%; Manufacturer: *; ManufacturerPartNumber: *; Package: *; Power/Voltage: *; TKE: *; Tolerance: *; Value: *
footprint RESC1005_L (Chip Resistor, Body 1.1x0.5mm, IPC High Density)
footprint RESC1608_N
footprint RESC2012_N
footprint RESC2012_Nx
footprint RESC3216_N
footprint RESC3225_N
footprint RESC4532_N
footprint RESC5025_N
footprint RESC6332_N
pins: 1, 2

## SW-PB
designator SB?, comment Push Button
Switch; Published: 24-Mar-1999; LatestRevisionDate: 17-Jul-2002; LatestRevisionNote: Re-released for DXP Platform.; PackageReference: SPST-2; Publisher: Altium Limited; PackageDescription: Switch; 2 Leads
footprint BUTTON SMD 5x5
pins: 1, 2, 3, 4
text: 1,2; 3,4

## TD6817
designator U?, comment TD6817T
1.5MHz 2A Synchronous Step-Down Regulator; Manufacturer: America Techcode Semiconductor; Package: SOT23-5
footprint SOT23-5_
pins: 1 RUN, 2 GND (power), 3 SW, 4 VIN (power), 5 FB

## TDA9860
designator U?
footprint DIP-32/P1.78 (DIP, Plastic Shrink; 32 Leads; Row Spacing 10.16 mm; Pitch 1.78 mm)
pins: 1 Vi3 (in), 2 P1 (out), 3 Vi5 (in), 4 Csmo, 5 Vi6 (in), 6 Vp (power), 7 Vo6 (out), 8 GND (power), 9 Vo2 (out), 10 Vi8 (in), 11 Cbr1, 12 Cbr2, 13 Vo8 (out), 14 Ctr, 15 Vo4 (out), 16 SCL (in), 17 SDA (io), 18 Vo3 (out), 19 Ctl, 20 Vo7 (out), 21 Cbl2, 22 Cbl1, 23 Vi7 (in), 24 Vo1 (out), 25 MAD (in), 26 Vo5 (out), 27 Cps2, 28 Vi1 (in), 29 Cps1, 30 Vi2 (in), 31 P2 (out), 32 Vi4 (in)

## TDA9885TS
designator U?
footprint SOP65P780-24AL (SOP, 24-Leads, Body 8.2x5.3mm, Pitch 0.65mm, IPC High Density)
pins: 1 VIF1 (in), 2 VIF2 (in), 3 OP1 (oc), 4 FMPLL (out), 5 DEEM (out), 6 AFD, 7 DGND (power), 8 AUD (out), 9 TOP, 10 SDA (io), 11 SCL (in), 12 SIOMAD (out), 14 TAGC (out), 15 REF (in), 17 CVBS (out), 18 AGND (power), 19 VPLL, 20 Vp (power), 21 AFC (out), 22 OP2 (oc), 23 SIF1 (in), 24 SIF2 (in)

## TJA1055T
designator U?
Fault-tolerant CAN transceiver
footprint SOIC127P600-14
pins: 1 INH, 2 TXD (in), 3 RXD (out), 4 ~{ERR} (out), 5 ~{STB} (in), 6 EN (in), 7 ~{WAKE} (in), 8 RTH, 9 RTL, 10 Vcc (power), 11 CANH, 12 CANL, 13 GND (power), 14 Vbat (power)

## TL431
designator U?
footprint SOT23-5_
footprint TO-92_1; pin to pad 4>1 5>2
pins: 3 K, 4 6, 5 A

## TLV3502
designator U?
footprint SOIC127P600-8
pins on every part: 5 V- (power) hidden to GND, 8 VCC (power) hidden to Vcc
part A pins: 1 IN+ (in), 2 IN- (in), 7 OUT (out)
part B pins: 3 IN+ (in), 4 IN- (in), 6 OUT (out)